# Altium schematic symbol library ESKD.SchLib: 165 symbols
Pins are listed as number, name and electrical type; pins without a type are passive.

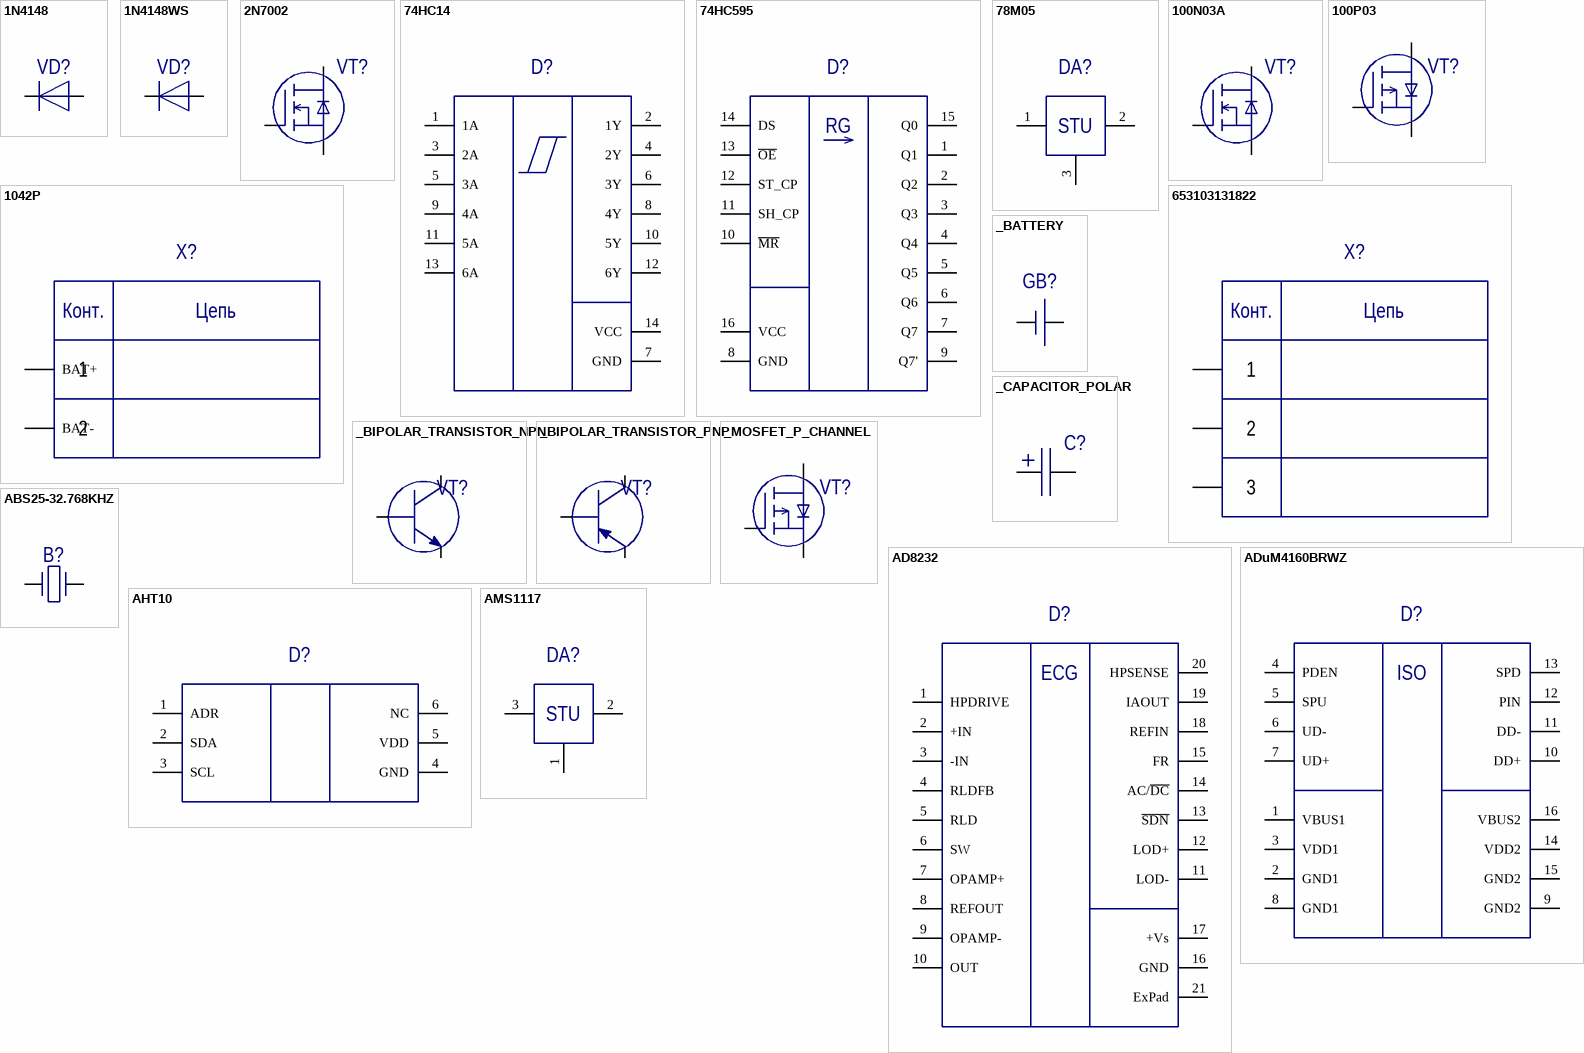
[diagram p0: symbols 1N4148 to AMS1117]

## 1N4148
designator VD?  (value not drawn)
Package: *
footprint SOD80 (MiniMELF)
pins: 1, 2

## 1N4148WS
designator VD?  (value not drawn)
footprint SOD323F MD (SODFL, 2-Leads, Body 1,25x2,50mm, IPC Medium Density)
footprint SOD323F LD (SODFL, 2-Leads, Body 1,25x2,50mm, IPC Low Density)
pins: 1, 2

## 2N7002
designator VT?  (value not drawn)
footprint SOT23-3 (TO-236) HD (SOT23, 3-Leads, Body 2,90x2,37mm, Pitch 0,95mm, IPC High Density)
footprint SOT23-3 (TO-236) LD (SOT23, 3-Leads, Body 2,90x2,37mm, Pitch 0,95mm, IPC Low Density)
footprint SOT23-3 (TO-236) MD (SOT23, 3-Leads, Body 2,90x2,37mm, Pitch 0,95mm, IPC Medium Density)
pins: 1 G, 2 S, 3 D

## 74HC14
designator D?  (value not drawn)
footprint SOIC14_150MIL HD JEDEC (SOIC, 14-Leads, Body 8,65x3,90mm, Pitch 1,27mm, IPC High Density)
footprint SOIC14_150MIL LD JEDEC (SOIC, 14-Leads, Body 8,65x3,90mm, Pitch 1,27mm, IPC Low Density)
footprint SOIC14_150MIL MD JEDEC (SOIC, 14-Leads, Body 8,65x3,90mm, Pitch 1,27mm, IPC Medium Density)
pins: 1 1A, 2 1Y, 3 2A, 4 2Y, 5 3A, 6 3Y, 7 GND, 8 4Y, 9 4A, 10 5Y, 11 5A, 12 6Y, 13 6A, 14 VCC

## 74HC595
designator D?  (value not drawn)
footprint SOIC16_150MIL HD JEDEC (SOIC, 16-Leads, Body 9,90x3,90mm, Pitch 1,27mm, IPC High Density)
footprint SOIC16_150MIL LD JEDEC (SOIC, 16-Leads, Body 9,90x3,90mm, Pitch 1,27mm, IPC Low Density)
footprint SOIC16_150MIL MD JEDEC (SOIC, 16-Leads, Body 9,90x3,90mm, Pitch 1,27mm, IPC Medium Density)
pins: 1 Q1, 2 Q2, 3 Q3, 4 Q4, 5 Q5, 6 Q6, 7 Q7, 8 GND, 9 Q7', 10 ~{MR}, 11 SH_CP, 12 ST_CP, 13 ~{OE}, 14 DS, 15 Q0, 16 VCC
text: RG

## 78M05
designator DA?  (value not drawn)
footprint DPAK (TO-252-3) HD (D-PAK, 3-Pads, Body 6,20x6,71mm (max), IPC High Density)
footprint DPAK (TO-252-3) LD (D-PAK, 3-Pads, Body 6,20x6,71mm (max), IPC Low Density)
footprint DPAK (TO-252-3) MD (D-PAK, 3-Pads, Body 6,20x6,71mm (max), IPC Medium Density)
pins: 1 (power), 2 (power), 3 (power)
text: STU

## 100N03A
designator VT?  (value not drawn)
footprint DPAK (TO-252-3) HD (D-PAK, 3-Pads, Body 6,20x6,71mm (max), IPC High Density)
footprint DPAK (TO-252-3) LD (D-PAK, 3-Pads, Body 6,20x6,71mm (max), IPC Low Density)
footprint DPAK (TO-252-3) MD (D-PAK, 3-Pads, Body 6,20x6,71mm (max), IPC Medium Density)
pins: 1 G, 2 S, 3 D

## 100P03
designator VT?  (value not drawn)
footprint PDFN5x6-8L
pins: 1 S, 2 S, 3 S, 4 G, 5 D

## 1042P
designator X?  (value not drawn)
18650 SOCKET
footprint 1042P
pins: 1 BAT+ (power), 2 BAT- (power)
text: Конт.; Цепь

## 653103131822
designator X?  (value not drawn)
Manufacturer: Wurth Electronics; Manufacturer Part Number: 653103131822; Connector Type: Male Pin; Current Rating: 1A; Gender: Male; Insulation Resistance: 100MR; Number of Contacts: 3; Pitch: 1.25mm; Voltage Rating: 125V; Category: Headers and Wire Housings; Color: Beige,White; Contact Gender: Male; Contact Material: Copper Alloy,Copper; Contact Mating Length: 0.084inch; Contact Plating: Tin; Contact Type: Male Pin; Flammability Rating: UL94 V-0; Height: 5.4mm; Housing Material: Nylon; Length: 3.4mm; Max Operating Temperature: 85°C; Min Operating Temperature: -25°C; Mount: Surface Mount; Number of Positions: 3; Number of Rows: 1; Package Quantity: 1; Packaging: Tape and Reel; REACH SVHC: Unknown; RoHS Compliant: Yes; Series: WR-WTB; Termination: SMD/SMT; Width: 8.5mm
footprint 653103131822
pins: 1, 2, 3
text: Конт.; Цепь

## _BATTERY
designator GB?  (value not drawn)
pins: 1, 2

## _BIPOLAR_TRANSISTOR_NPN
designator VT?  (value not drawn)
pins: 1 B (power), 2 E (power), 3 C (power)

## _BIPOLAR_TRANSISTOR_PNP
designator VT?  (value not drawn)
pins: 1 B (power), 2 E (power), 3 C (power)

## _CAPACITOR_POLAR
designator C?  (value not drawn)
pins: 1, 2

## _MOSFET_P_CHANNEL
designator VT?  (value not drawn)
pins: 1 G, 2 S, 3 D

## ABS25-32.768KHZ
designator B?  (value not drawn)
SMD Quartz Crystal
footprint FP-ABS25-MFG
pins: 1, 4

## AD8232
designator D?  (value not drawn)
footprint QFN20 LD (QFN, 20-Leads, Body 4,00x4,00mm, Pitch 0,50mm, Thermal Pad 2,55x2,55mm, IPC Low Density)
pins: 1 HPDRIVE, 2 +IN, 3 -IN, 4 RLDFB, 5 RLD, 6 SW, 7 OPAMP+, 8 REFOUT, 9 OPAMP-, 10 OUT, 11 LOD-, 12 LOD+, 13 ~{SDN}, 14 AC/~{DC}, 15 FR, 16 GND, 17 +Vs, 18 REFIN, 19 IAOUT, 20 HPSENSE, 21 ExPad
text: ECG

## ADuM4160BRWZ
designator D?  (value not drawn)
Manufacturer: Analog Devices; Manufacturer Part Number: ADUM4160BRWZ; Channel Type: Bidirectional; Data Rate: 12Mbps; Isolated Power: No; Isolation Voltage: 5kV; Max Input Current: 1uA; Max Supply Voltage: 5.5V; Min Supply Voltage: 3.1V; Nominal Supply Current: 6mA; Number of Channels: 2; Propagation Delay: 70ns; Rise Time: 20ns; Case/Package: SOIC; Category: Interface ICs; Contact Plating: Tin,Matte; Depth: 2.35mm; Lead Free: Contains Lead; Length: 10.5mm; Max Operating Temperature: 105°C; Min Operating Temperature: -40°C; Number of Pins: 16; Package Quantity: 47; Packaging: Rail/Tube; Radiation Hardening: No; REACH SVHC: No SVHC; RoHS Compliant: Yes; Series: iCoupler®; Supply Current: 6mA; Width: 7.6mm
footprint SOIC16_300MIL HD JEDEC (SOIC, 16-Leads, Body 10,30x7,50mm, Pitch 1,27mm, IPC High Density)
footprint SOIC16_300MIL LD JEDEC (SOIC, 16-Leads, Body 10,30x7,50mm, Pitch 1,27mm, IPC Low Density)
footprint SOIC16_300MIL MD JEDEC (SOIC, 16-Leads, Body 10,30x7,50mm, Pitch 1,27mm, IPC Medium Density)
pins: 1 VBUS1, 2 GND1, 3 VDD1, 4 PDEN, 5 SPU, 6 UD-, 7 UD+, 8 GND1, 9 GND2, 10 DD+, 11 DD-, 12 PIN, 13 SPD, 14 VDD2, 15 GND2, 16 VBUS2
text: ISO

## AHT10
designator D?  (value not drawn)
pins: 1 ADR, 2 SDA, 3 SCL, 4 GND, 5 VDD, 6 NC

## AMS1117
designator DA?  (value not drawn)
footprint SOT223 HD (SOT223, 4-Leads, Body 6,50x7,00mm (avg), Pitch 2,30mm, IPC High Density)
footprint SOT223 LD (SOT223, 4-Leads, Body 6,50x7,00mm (avg), Pitch 2,30mm, IPC Low Density)
footprint SOT223 MD (SOT223, 4-Leads, Body 6,50x7,00mm (avg), Pitch 2,30mm, IPC Medium Density)
pins: 1 (power), 2 (power), 3 (power), 4
text: STU

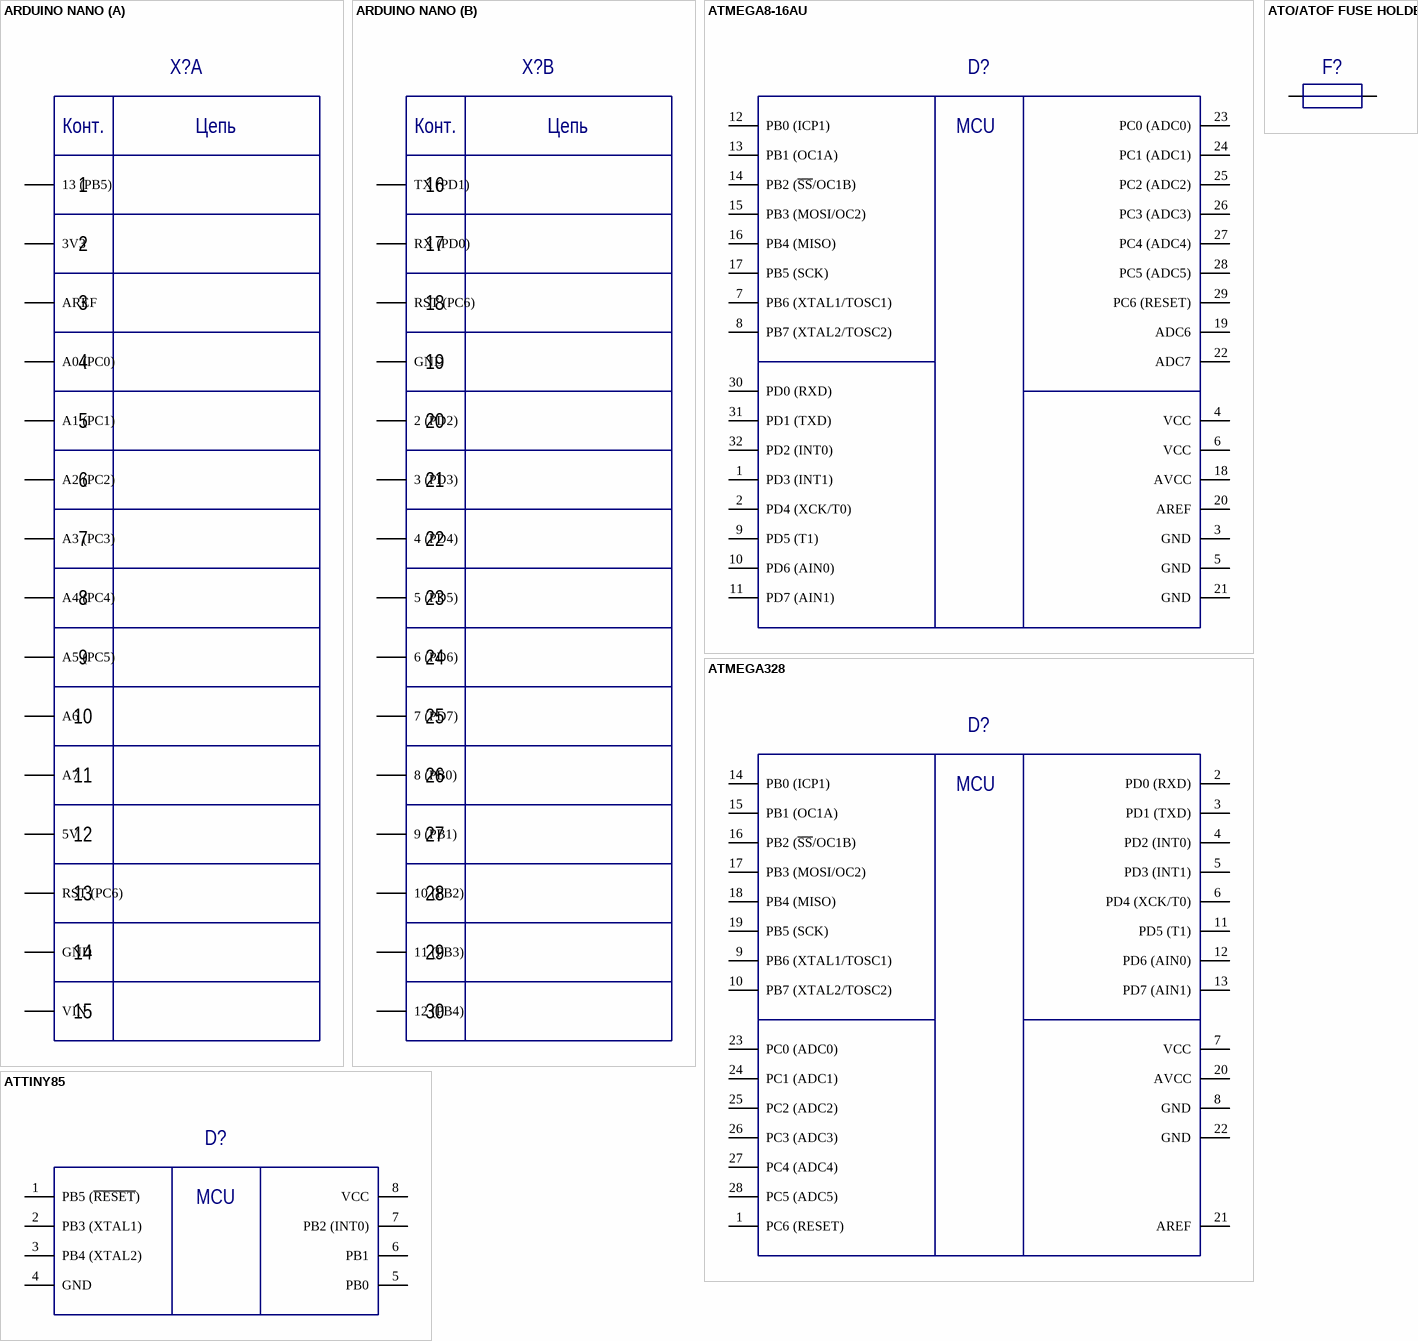
[diagram p1: symbols ARDUINO NANO to ATTINY85]

## ARDUINO NANO
designator X?  (value not drawn)
footprint Arduino Nano
part A pins: 1 13 (PB5), 2 3V3, 3 AREF, 4 A0 (PC0), 5 A1 (PC1), 6 A2 (PC2), 7 A3 (PC3), 8 A4 (PC4), 9 A5 (PC5), 10 A6, 11 A7, 12 5V, 13 RST (PC6), 14 GND, 15 VIN
part B pins: 16 TX (PD1), 17 RX (PD0), 18 RST (PC6), 19 GND, 20 2 (PD2), 21 3 (PD3), 22 4 (PD4), 23 5 (PD5), 24 6 (PD6), 25 7 (PD7), 26 8 (PB0), 27 9 (PB1), 28 10 (PB2), 29 11 (PB3), 30 12 (PB4)
part A text: Конт.; Цепь
part B text: Конт.; Цепь

## ATMEGA8-16AU
designator D?  (value not drawn)
Manufacturer: Microchip / Atmel; Manufacturer Part Number: ATMEGA8-16AU; Access Time: 16us; Address Bus Width: 8b; Core Architecture: AVR; Frequency: 16MHz; Interface: SPI,USART,I2C,UART,2-Wire; Max Supply Voltage: 5.5V; Memory Size: 8KB; Memory Type: FLASH,EEPROM; Min Supply Voltage: 4.5V; Number of ADC Channels: 8; Number of I/Os: 23; Number of I2C Channels: 1; Number of PWM Channels: 3; Operating Supply Voltage: 5V; Oscillator Type: Internal; Peripherals: Brown-out Detect/Reset,POR,PWM,WDT; RAM Size: 1KB; Watchdog Timer: Yes; Case/Package: A; Category: Microcontrollers; Contact Plating: Tin,Matte; Data Bus Width: 8b; Height: 1.05mm; Lead Free: Lead Free; Length: 7.1mm; Max Frequency: 16MHz; Max Operating Temperature: 85°C; Min Operating Temperature: -40°C; Mount: Surface Mount; Number of Bits: 8; Number of Pins: 32; Number of Programmable I/O: 23; Number of SPI Channels: 1; Number of Timers/Counters: 3; Package Quantity: 250; Packaging: Tray; Radiation Hardening: No; REACH SVHC: No SVHC; Series: AVR® ATmega; Width: 7.1mm
footprint TQFP32 MD (TQFP, 32-Leads, Body 7,00x7,00mm, Pitch 0,80mm, IPC Medium Density)
footprint TQFP32 LD (TQFP, 32-Leads, Body 7,00x7,00mm, Pitch 0,80mm, IPC Low Density)
footprint TQFP32 LD SPECIAL (TQFP, 32-Leads, Body 7,00x7,00mm, Pitch 0,80mm, IPC Low Density)
pins: 1 PD3 (INT1), 2 PD4 (XCK/T0), 3 GND (power), 4 VCC (power), 5 GND (power), 6 VCC (power), 7 PB6 (XTAL1/TOSC1), 8 PB7 (XTAL2/TOSC2), 9 PD5 (T1), 10 PD6 (AIN0), 11 PD7 (AIN1), 12 PB0 (ICP1), 13 PB1 (OC1A), 14 PB2 (~{SS}/OC1B), 15 PB3 (MOSI/OC2), 16 PB4 (MISO), 17 PB5 (SCK), 18 AVCC (power), 19 ADC6, 20 AREF (power), 21 GND (power), 22 ADC7, 23 PC0 (ADC0), 24 PC1 (ADC1), 25 PC2 (ADC2), 26 PC3 (ADC3), 27 PC4 (ADC4), 28 PC5 (ADC5), 29 PC6 (RESET), 30 PD0 (RXD), 31 PD1 (TXD), 32 PD2 (INT0)
text: MCU

## ATMEGA328
designator D?  (value not drawn)
footprint DIP28
pins: 1 PC6 (RESET), 2 PD0 (RXD), 3 PD1 (TXD), 4 PD2 (INT0), 5 PD3 (INT1), 6 PD4 (XCK/T0), 7 VCC (power), 8 GND (power), 9 PB6 (XTAL1/TOSC1), 10 PB7 (XTAL2/TOSC2), 11 PD5 (T1), 12 PD6 (AIN0), 13 PD7 (AIN1), 14 PB0 (ICP1), 15 PB1 (OC1A), 16 PB2 (~{SS}/OC1B), 17 PB3 (MOSI/OC2), 18 PB4 (MISO), 19 PB5 (SCK), 20 AVCC (power), 21 AREF (power), 22 GND (power), 23 PC0 (ADC0), 24 PC1 (ADC1), 25 PC2 (ADC2), 26 PC3 (ADC3), 27 PC4 (ADC4), 28 PC5 (ADC5)
text: MCU

## ATO/ATOF FUSE HOLDER
designator F?  (value not drawn)
footprint XF-507P (ATO Blade Fuse Holder)
pins: 1, 2

## ATTINY85
designator D?  (value not drawn)
Manufacturer: Microchip / Atmel; Manufacturer Part Number: ATMEGA8-16AU; Access Time: 16us; Address Bus Width: 8b; Core Architecture: AVR; Frequency: 16MHz; Interface: SPI,USART,I2C,UART,2-Wire; Max Supply Voltage: 5.5V; Memory Size: 8KB; Memory Type: FLASH,EEPROM; Min Supply Voltage: 4.5V; Number of ADC Channels: 8; Number of I/Os: 23; Number of I2C Channels: 1; Number of PWM Channels: 3; Operating Supply Voltage: 5V; Oscillator Type: Internal; Peripherals: Brown-out Detect/Reset,POR,PWM,WDT; RAM Size: 1KB; Watchdog Timer: Yes; Case/Package: A; Category: Microcontrollers; Contact Plating: Tin,Matte; Data Bus Width: 8b; Height: 1.05mm; Lead Free: Lead Free; Length: 7.1mm; Max Frequency: 16MHz; Max Operating Temperature: 85°C; Min Operating Temperature: -40°C; Mount: Surface Mount; Number of Bits: 8; Number of Pins: 32; Number of Programmable I/O: 23; Number of SPI Channels: 1; Number of Timers/Counters: 3; Package Quantity: 250; Packaging: Tray; Radiation Hardening: No; REACH SVHC: No SVHC; Series: AVR® ATmega; Width: 7.1mm
pins: 1 PB5 (~{RESET}), 2 PB3 (XTAL1), 3 PB4 (XTAL2), 4 GND, 5 PB0, 6 PB1, 7 PB2 (INT0), 8 VCC
text: MCU

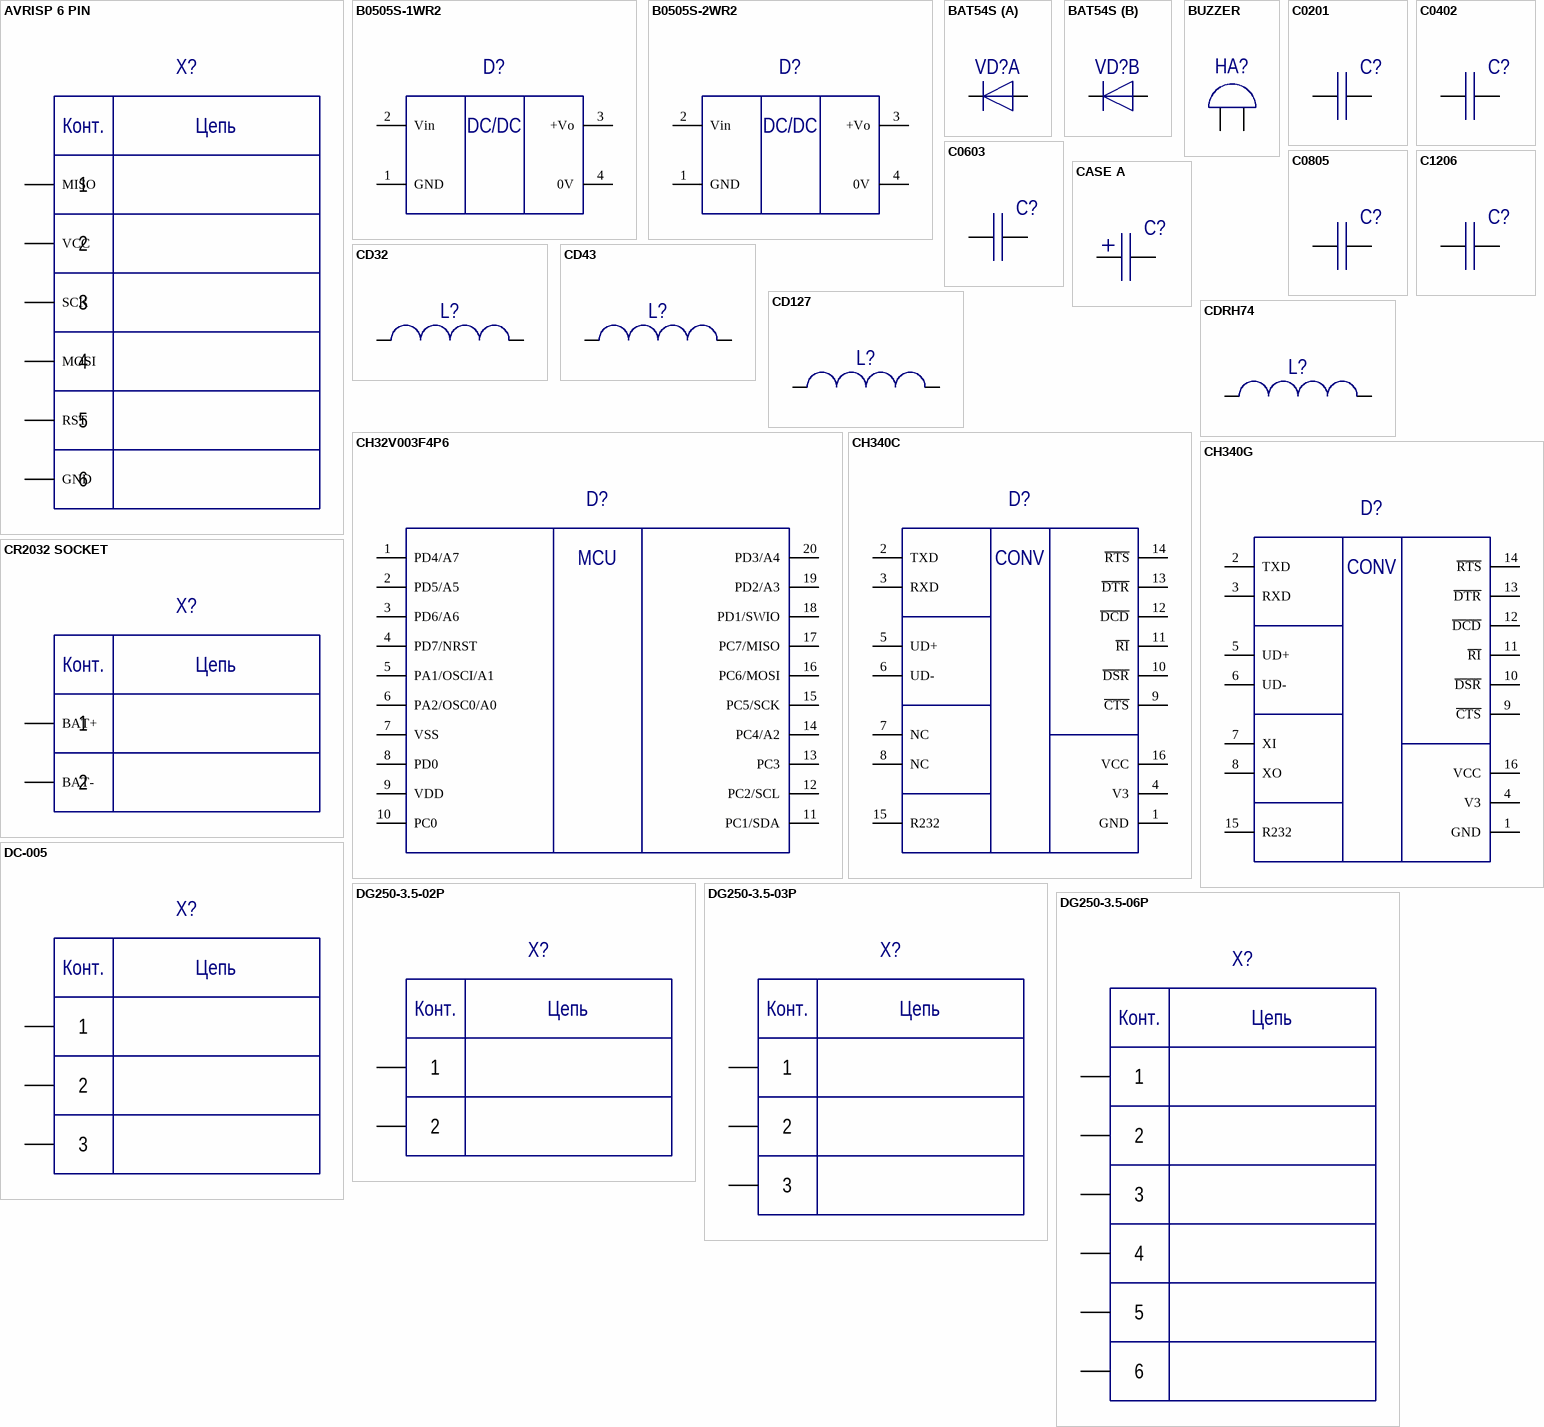
[diagram p2: symbols AVRISP 6 PIN to DG250-3.5-06P]

## AVRISP 6 PIN
designator X?  (value not drawn)
footprint AVRISP
pins: 1 MISO, 2 VCC, 3 SCK, 4 MOSI, 5 RST, 6 GND
text: Конт.; Цепь

## B0505S-1WR2
designator D?  (value not drawn)
Manufacturer Part Number: B0505S-1WR2; Manufacturer: MORNSUN; Category: Voltage Regulators - Switching; RoHS Compliant: Yes
footprint B_S-1WR2_FLAT
footprint B_S-1WR2
pins: 1 GND (power), 2 Vin (power), 3 +Vo (power), 4 0V (power)
text: DC/DC

## B0505S-2WR2
designator D?  (value not drawn)
Manufacturer Part Number: B0505S-1WR2; Manufacturer: MORNSUN; Category: Voltage Regulators - Switching; RoHS Compliant: Yes
pins: 1 GND (power), 2 Vin (power), 3 +Vo (power), 4 0V (power)
text: DC/DC

## BAT54S
designator VD?  (value not drawn)
footprint SOT23-3 (TO-236) LD (SOT23, 3-Leads, Body 2,90x2,37mm, Pitch 0,95mm, IPC Low Density)
part A pins: 1, 3
part B pins: 2, 3

## BUZZER
designator HA?  (value not drawn)
footprint BUZZER
pins: 1, 2

## C0201
designator C?  (value not drawn)
footprint C0201 EASY (Chip Capacitor C0201, 2-Leads, Body 0,6x0,3mm, IPC Medium Density)
pins: 1, 2

## C0402
designator C?  (value not drawn)
footprint C0402 EASY (Chip Capacitor 0402, 2-Leads, Body 1,0x0,5mm, IPC Medium Density)
pins: 1, 2

## C0603
designator C?  (value not drawn)
footprint C0603 EASY (Chip Capacitor 0603, 2-Leads, Body 1,6x0,8mm, IPC Medium Density)
footprint C0603 HD (Chip Capacitor, 2-Leads, Body 1.75x0.96mm, IPC High Density)
footprint C0603 LD (Chip Capacitor, 2-Leads, Body 1.75x0.96mm, IPC Low Density)
footprint C0603 MD (Chip Capacitor, 2-Leads, Body 1.75x0.96mm, IPC Medium Density)
pins: 1, 2

## C0805
designator C?  (value not drawn)
footprint C0805 EASY (Chip Capacitor 0805, 2-Leads, Body 2,0x1,3mm, IPC Medium Density)
pins: 1, 2

## C1206
designator C?  (value not drawn)
footprint C1206 EASY (Chip Capacitor 1206, 2-Leads, Body 3,2x1,6mm, IPC Medium Density)
pins: 1, 2

## CASE A
designator C?  (value not drawn)
footprint CASE A
pins: 1, 2

## CD32
designator L?  (value not drawn)
footprint CD32
pins: 1, 2

## CD43
designator L?  (value not drawn)
footprint CD43
pins: 1, 2

## CD127
designator L?  (value not drawn)
footprint CD127
pins: 1, 2

## CDRH74
designator L?  (value not drawn)
footprint CDRH74
pins: 1, 2

## CH32V003F4P6
designator D?  (value not drawn)
footprint TSSOP20 LD (TSOP, 20-Leads, Body 6,50x4,40mm, Pitch 0,65mm, IPC Low Density)
pins: 1 PD4/A7, 2 PD5/A5, 3 PD6/A6, 4 PD7/NRST, 5 PA1/OSCI/A1, 6 PA2/OSC0/A0, 7 VSS, 8 PD0, 9 VDD, 10 PC0, 11 PC1/SDA, 12 PC2/SCL, 13 PC3, 14 PC4/A2, 15 PC5/SCK, 16 PC6/MOSI, 17 PC7/MISO, 18 PD1/SWIO, 19 PD2/A3, 20 PD3/A4
text: MCU

## CH340C
designator D?  (value not drawn)
footprint SOIC16_150MIL HD JEDEC (SOIC, 16-Leads, Body 9,90x3,90mm, Pitch 1,27mm, IPC High Density)
footprint SOIC16_150MIL LD JEDEC (SOIC, 16-Leads, Body 9,90x3,90mm, Pitch 1,27mm, IPC Low Density)
footprint SOIC16_150MIL MD JEDEC (SOIC, 16-Leads, Body 9,90x3,90mm, Pitch 1,27mm, IPC Medium Density)
pins: 1 GND, 2 TXD, 3 RXD, 4 V3, 5 UD+, 6 UD-, 7 NC, 8 NC, 9 ~{CTS}, 10 ~{DSR}, 11 ~{RI}, 12 ~{DCD}, 13 ~{DTR}, 14 ~{RTS}, 15 R232, 16 VCC
text: CONV

## CH340G
designator D?  (value not drawn)
footprint SOIC16_150MIL HD JEDEC (SOIC, 16-Leads, Body 9,90x3,90mm, Pitch 1,27mm, IPC High Density)
footprint SOIC16_150MIL LD JEDEC (SOIC, 16-Leads, Body 9,90x3,90mm, Pitch 1,27mm, IPC Low Density)
footprint SOIC16_150MIL MD JEDEC (SOIC, 16-Leads, Body 9,90x3,90mm, Pitch 1,27mm, IPC Medium Density)
pins: 1 GND, 2 TXD, 3 RXD, 4 V3, 5 UD+, 6 UD-, 7 XI, 8 XO, 9 ~{CTS}, 10 ~{DSR}, 11 ~{RI}, 12 ~{DCD}, 13 ~{DTR}, 14 ~{RTS}, 15 R232, 16 VCC
text: CONV

## CR2032 SOCKET
designator X?  (value not drawn)
footprint CR2032 (KLS5-CR2032-01 (BH-642) (CH224-2032))
pins: 1 BAT+ (power), 2 BAT- (power)
text: Конт.; Цепь

## DC-005
designator X?  (value not drawn)
footprint DC-005 (DC SOCKET W14.00xD9.00xH11.00)
pins: 1, 2, 3
text: Конт.; Цепь

## DG250-3.5-02P
designator X?
PCB spring terminal blocks,Rated current:10A.Rated voltage （III/2）:320V,pitch:3.5mm,Color:gray,Contact surface :Tin
footprint DG250-3.5-02P (PCB spring terminal blocks,Rated current:10A.Rated voltage (III/2):320V,pitch:3.5mm,Color:gray,Contact surface :Tin)
pins: 1 (power), 2 (power)
text: Конт.; Цепь

## DG250-3.5-03P
designator X?  (value not drawn)
PCB spring terminal blocks,Rated current:10A.Rated voltage （III/2）:320V,pitch:3.5mm,Color:gray,Contact surface :Tin
footprint DG250-3.5-03P (PCB spring terminal blocks,Rated current:10A.Rated voltage (III/2):320V,pitch:3.5mm,Color:gray,Contact surface :Tin)
pins: 1, 2, 3
text: Конт.; Цепь

## DG250-3.5-06P
designator X?  (value not drawn)
PCB spring terminal blocks,Rated current:10A.Rated voltage （III/2）:320V,pitch:3.5mm,Color:gray,Contact surface :Tin
footprint DG250-3.5-06P (PCB spring terminal blocks,Rated current:10A.Rated voltage (III/2):320V,pitch:3.5mm,Color:gray,Contact surface :Tin)
pins: 1, 2, 3, 4, 5, 6
text: Конт.; Цепь

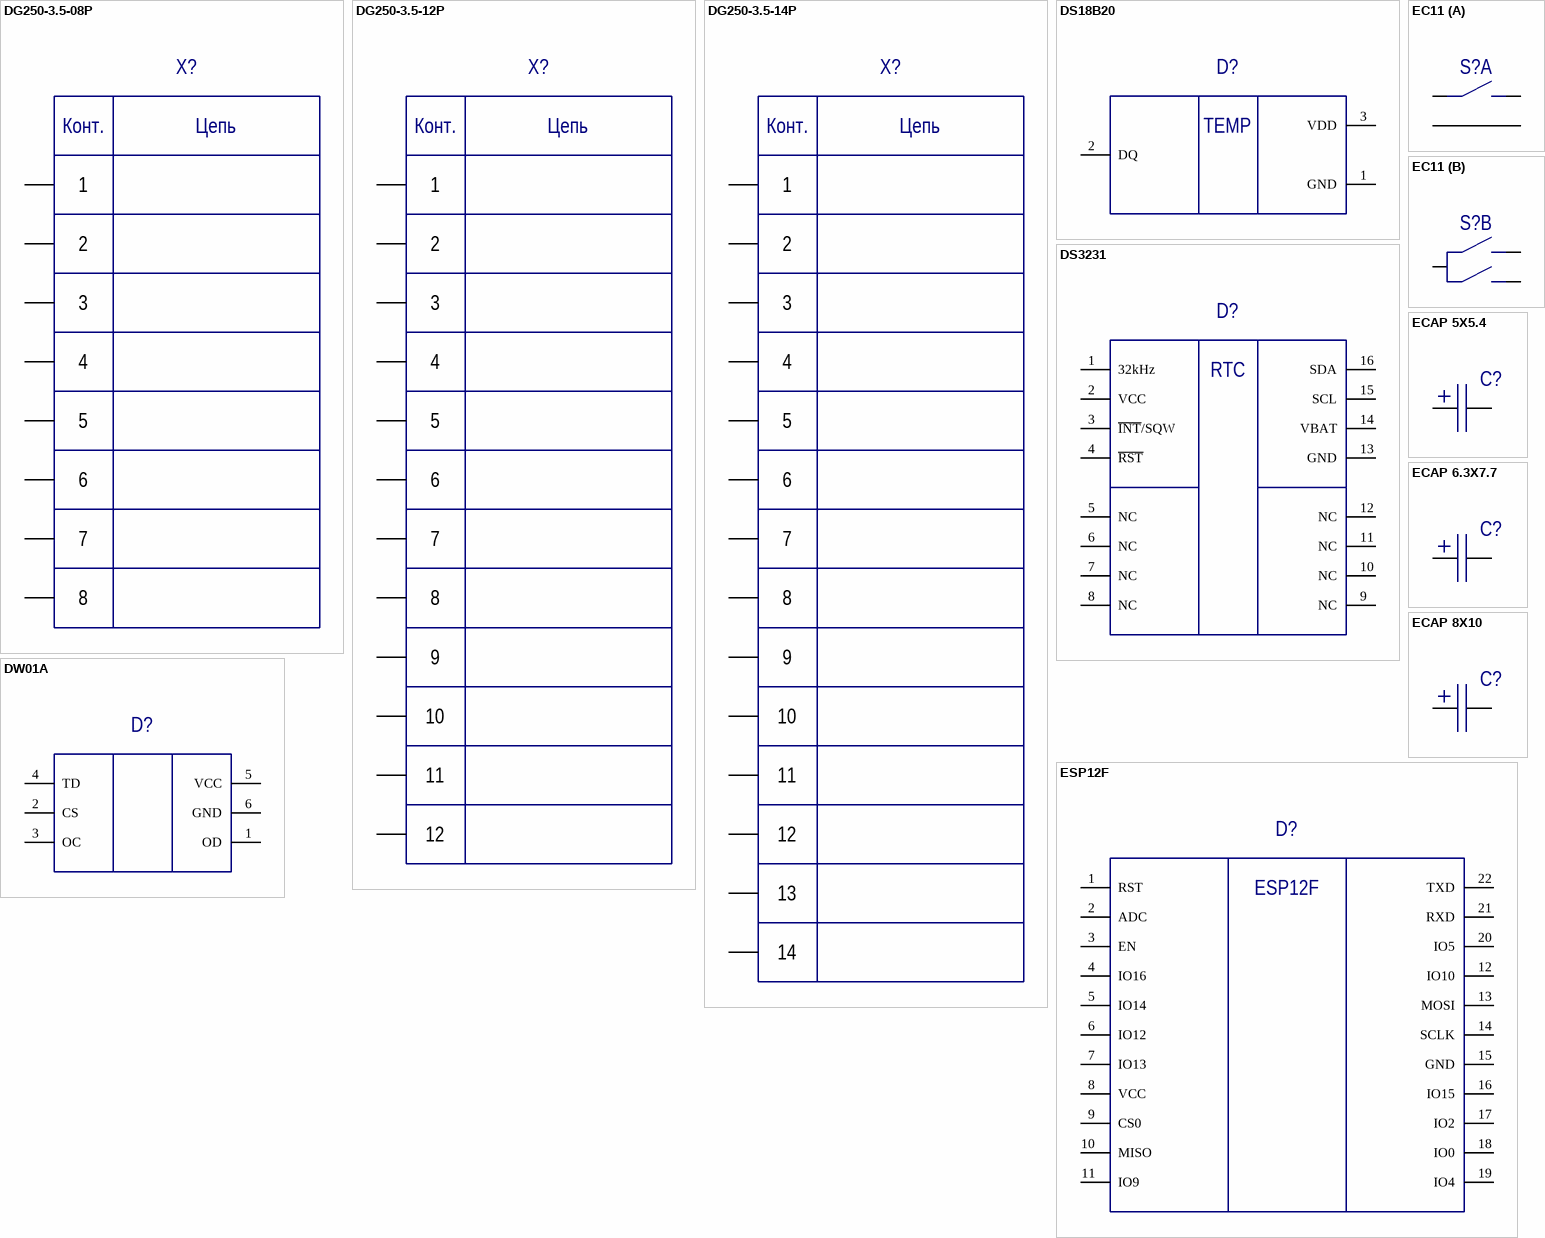
[diagram p3: symbols DG250-3.5-08P to ESP12F]

## DG250-3.5-08P
designator X?  (value not drawn)
PCB spring terminal blocks,Rated current:10A.Rated voltage （III/2）:320V,pitch:3.5mm,Color:gray,Contact surface :Tin
footprint DG250-3.5-08P (Footprint not found)
pins: 1, 2, 3, 4, 5, 6, 7, 8
text: Конт.; Цепь

## DG250-3.5-12P
designator X?  (value not drawn)
PCB spring terminal blocks,Rated current:10A.Rated voltage （III/2）:320V,pitch:3.5mm,Color:gray,Contact surface :Tin
footprint DG250-3.5-12P (PCB spring terminal blocks,Rated current:10A.Rated voltage (III/2):320V,pitch:3.5mm,Color:gray,Contact surface :Tin)
pins: 1, 2, 3, 4, 5, 6, 7, 8, 9, 10, 11, 12
text: Конт.; Цепь

## DG250-3.5-14P
designator X?  (value not drawn)
PCB spring terminal blocks,Rated current:10A.Rated voltage （III/2）:320V,pitch:3.5mm,Color:gray,Contact surface :Tin
footprint DG250-3.5-14P (PCB spring terminal blocks,Rated current:10A.Rated voltage (III/2):320V,pitch:3.5mm,Color:gray,Contact surface :Tin)
pins: 1, 2, 3, 4, 5, 6, 7, 8, 9, 10, 11, 12, 13, 14
text: Конт.; Цепь

## DS18B20
designator D?  (value not drawn)
footprint TO92
pins: 1 GND (power), 2 DQ (power), 3 VDD (power)
text: TEMP

## DS3231
designator D?  (value not drawn)
Extremely Accurate I2C-Integrated / RTC/TCXO/Crystal
footprint SOIC16_300MIL HD JEDEC (SOIC, 16-Leads, Body 10,30x7,50mm, Pitch 1,27mm, IPC High Density)
footprint SOIC16_300MIL LD JEDEC (SOIC, 16-Leads, Body 10,30x7,50mm, Pitch 1,27mm, IPC Low Density)
footprint SOIC16_300MIL MD JEDEC (SOIC, 16-Leads, Body 10,30x7,50mm, Pitch 1,27mm, IPC Medium Density)
pins: 1 32kHz, 2 VCC, 3 ~{INT}/SQW, 4 ~{RST}, 5 NC, 6 NC, 7 NC, 8 NC, 9 NC, 10 NC, 11 NC, 12 NC, 13 GND, 14 VBAT, 15 SCL, 16 SDA
text: RTC

## DW01A
designator D?  (value not drawn)
footprint SOT23-6 MD (SOT23, 6-Leads, Body 2,90x2,37mm, Pitch 0,95mm, IPC Medium Density)
pins: 1 OD, 2 CS, 3 OC, 4 TD, 5 VCC, 6 GND

## EC11
designator S?  (value not drawn)
footprint EC11
part A pins: D, E, MH1, MH2
part B pins: A, B, C

## ECAP 5X5.4
designator C?  (value not drawn)
footprint ECAP 5X5.4 (Aluminum Electrolytic Capacitor, Body 5,30x5,30x5,50mm, IPC Low Density)
pins: 1, 2

## ECAP 6.3X7.7
designator C?  (value not drawn)
footprint ECAP 6.3x7.7 (Aluminum Electrolytic Capacitor, Body 6,60x6,60x8,50mm, IPC Low Density)
pins: 1, 2

## ECAP 8X10
designator C?  (value not drawn)
footprint ECAP 8x10 (Aluminum Electrolytic Capacitor, Body 8,30x8,30x10,80mm, IPC Low Density)
pins: 1, 2

## ESP12F
designator D?  (value not drawn)
footprint ESP12F
pins: 1 RST, 2 ADC, 3 EN, 4 IO16, 5 IO14, 6 IO12, 7 IO13, 8 VCC, 9 CS0, 10 MISO, 11 IO9, 12 IO10, 13 MOSI, 14 SCLK, 15 GND, 16 IO15, 17 IO2, 18 IO0, 19 IO4, 20 IO5, 21 RXD, 22 TXD

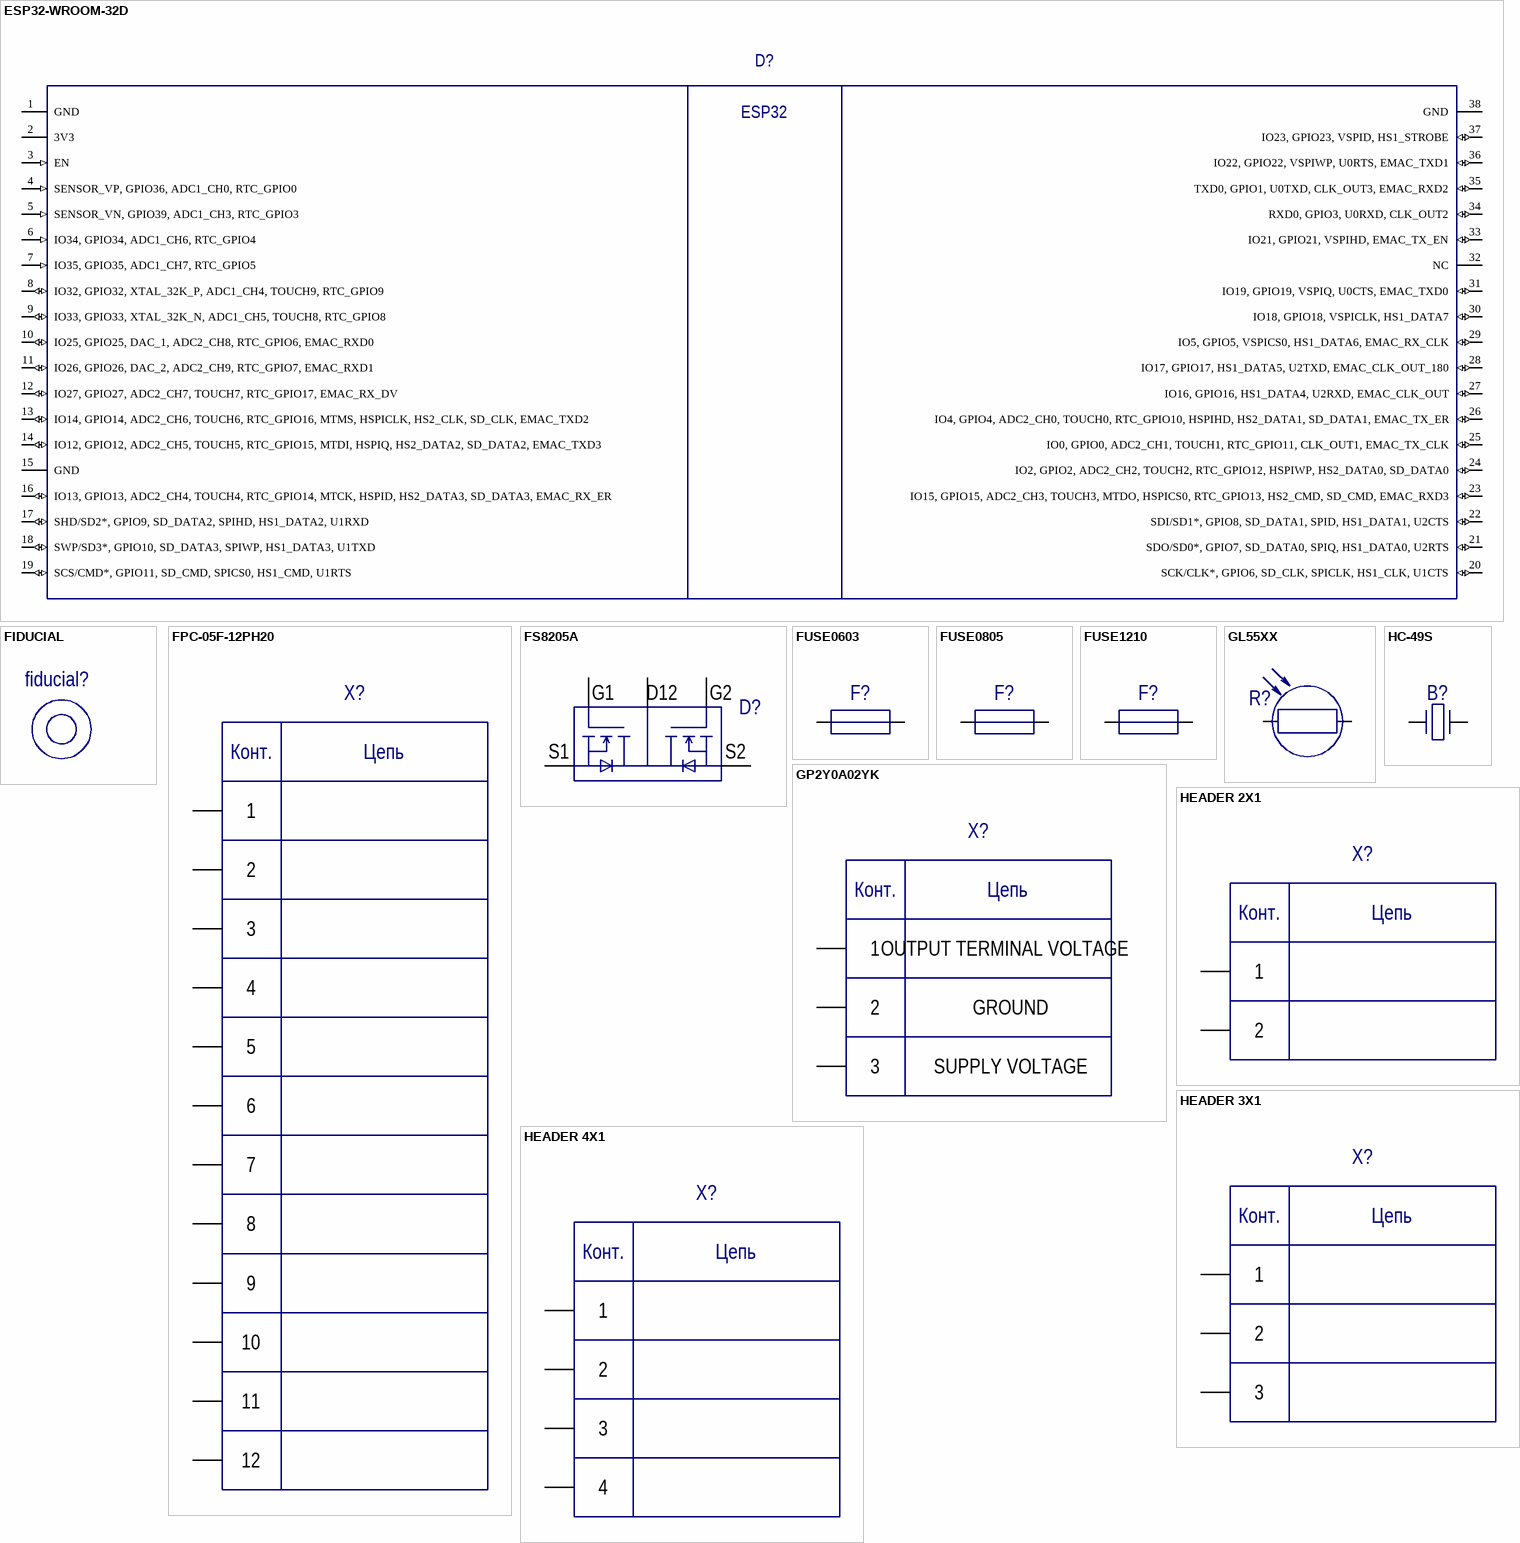
[diagram p4: symbols ESP32-WROOM-32D to HEADER 4X1]

## ESP32-WROOM-32D
designator D?  (value not drawn)
footprint ESP32-WROOM-32D (ESP32-WROOM-32D and ESP32-WROOM-32U are powerful, generic Wi-Fi + Bluetooth® + Bluetooth LE MCU  modules that target a wide variety of applications, ranging from low-power sensor networks to the most  demanding tasks, such as voice encoding, music streaming and MP3 decoding.)
pins: 1 GND (power), 2 3V3 (power), 3 EN (in), 4 SENSOR_VP, GPIO36, ADC1_CH0, RTC_GPIO0 (in), 5 SENSOR_VN, GPIO39, ADC1_CH3, RTC_GPIO3 (in), 6 IO34, GPIO34, ADC1_CH6, RTC_GPIO4 (in), 7 IO35, GPIO35, ADC1_CH7, RTC_GPIO5 (in), 8 IO32, GPIO32, XTAL_32K_P, ADC1_CH4, TOUCH9, RTC_GPIO9 (io), 9 IO33, GPIO33, XTAL_32K_N, ADC1_CH5, TOUCH8, RTC_GPIO8 (io), 10 IO25, GPIO25, DAC_1, ADC2_CH8, RTC_GPIO6, EMAC_RXD0 (io), 11 IO26, GPIO26, DAC_2, ADC2_CH9, RTC_GPIO7, EMAC_RXD1 (io), 12 IO27, GPIO27, ADC2_CH7, TOUCH7, RTC_GPIO17, EMAC_RX_DV (io), 13 IO14, GPIO14, ADC2_CH6, TOUCH6, RTC_GPIO16, MTMS, HSPICLK, HS2_CLK, SD_CLK, EMAC_TXD2 (io), 14 IO12, GPIO12, ADC2_CH5, TOUCH5, RTC_GPIO15, MTDI, HSPIQ, HS2_DATA2, SD_DATA2, EMAC_TXD3 (io), 15 GND (power), 16 IO13, GPIO13, ADC2_CH4, TOUCH4, RTC_GPIO14, MTCK, HSPID, HS2_DATA3, SD_DATA3, EMAC_RX_ER (io), 17 SHD/SD2*, GPIO9, SD_DATA2, SPIHD, HS1_DATA2, U1RXD (io), 18 SWP/SD3*, GPIO10, SD_DATA3, SPIWP, HS1_DATA3, U1TXD (io), 19 SCS/CMD*, GPIO11, SD_CMD, SPICS0, HS1_CMD, U1RTS (io), 20 SCK/CLK*, GPIO6, SD_CLK, SPICLK, HS1_CLK, U1CTS (io), 21 SDO/SD0*, GPIO7, SD_DATA0, SPIQ, HS1_DATA0, U2RTS (io), 22 SDI/SD1*, GPIO8, SD_DATA1, SPID, HS1_DATA1, U2CTS (io), 23 IO15, GPIO15, ADC2_CH3, TOUCH3, MTDO, HSPICS0, RTC_GPIO13, HS2_CMD, SD_CMD, EMAC_RXD3 (io), 24 IO2, GPIO2, ADC2_CH2, TOUCH2, RTC_GPIO12, HSPIWP, HS2_DATA0, SD_DATA0 (io), 25 IO0, GPIO0, ADC2_CH1, TOUCH1, RTC_GPIO11, CLK_OUT1, EMAC_TX_CLK (io), 26 IO4, GPIO4, ADC2_CH0, TOUCH0, RTC_GPIO10, HSPIHD, HS2_DATA1, SD_DATA1, EMAC_TX_ER (io), 27 IO16, GPIO16, HS1_DATA4, U2RXD, EMAC_CLK_OUT (io), 28 IO17, GPIO17, HS1_DATA5, U2TXD, EMAC_CLK_OUT_180 (io), 29 IO5, GPIO5, VSPICS0, HS1_DATA6, EMAC_RX_CLK (io), 30 IO18, GPIO18, VSPICLK, HS1_DATA7 (io), 31 IO19, GPIO19, VSPIQ, U0CTS, EMAC_TXD0 (io), 32 NC, 33 IO21, GPIO21, VSPIHD, EMAC_TX_EN (io), 34 RXD0, GPIO3, U0RXD, CLK_OUT2 (io), 35 TXD0, GPIO1, U0TXD, CLK_OUT3, EMAC_RXD2 (io), 36 IO22, GPIO22, VSPIWP, U0RTS, EMAC_TXD1 (io), 37 IO23, GPIO23, VSPID, HS1_STROBE (io), 38 GND (power)
text: ESP32

## FIDUCIAL
designator fiducial?  (value not drawn)
footprint FIDUCIAL

## FPC-05F-12PH20
designator X?  (value not drawn)
Clamshell -25℃~+85℃ 12P Bottom Contact Surface Mount，Right Angle 0.5mm SMD,P=0.5mm,Surface Mount，Right Angle FFC/FPC Connectors ROHS
footprint FPC-05F-12PH20 (XUNPU FPC-05F-12PH20)
pins: 1, 2, 3, 4, 5, 6, 7, 8, 9, 10, 11, 12
text: Конт.; Цепь

## FS8205A
designator D?  (value not drawn)
footprint TSSOP8 MD (TSOP, 8-Leads, Body 3,00x4,40mm, Pitch 0,65mm, IPC Medium Density)
pins: 1 D12, 2 S1, 3 S1, 4 G1, 5 G2, 6 S2, 7 S2, 8 D12

## FUSE0603
designator F?  (value not drawn)
footprint FUSE0603 EASY (Chip Capacitor 0603, 2-Leads, Body 1,6x0,8mm, IPC Medium Density)
pins: 1, 2

## FUSE0805
designator F?  (value not drawn)
footprint FUSE0805 EASY (Chip Resistor 0805, 2-Leads, Body 2,0x1,3mm, IPC Medium Density)
pins: 1, 2

## FUSE1210
designator F?  (value not drawn)
footprint FUSE1210 (Chip Resistor, 2-Leads, Body 3,20x2,50mm, IPC Medium Density)
pins: 1, 2

## GL55XX
designator R?  (value not drawn)
Photoresistor GL55XX series
footprint GL55XX_2 (Photoresistor 3mm pitch)
footprint GL55XX_1 (Photoresistor 3mm pitch)
pins: 1, 2

## GP2Y0A02YK
designator X?  (value not drawn)
footprint GP2Y0A02YK0F CROSS
pins: 1, 2, 3
text: Конт.; Цепь; OUTPUT TERMINAL VOLTAGE; GROUND; SUPPLY VOLTAGE

## HC-49S
designator B?  (value not drawn)
Quartz Crystal
footprint HC-49
pins: 1, 2

## HEADER 2X1
designator X?  (value not drawn)
footprint HEADER 2x1 (Pin Header, pitch 2.54 mm, THT, Vertical, single row, 2p)
footprint HEADER 2x1 FLAT (.025 SQ Post Terminal Strip Assembly, 1x2 Pins, Right Angle, 2.54mm Pitch, Male)
pins: 1, 2
text: Конт.; Цепь

## HEADER 3X1
designator X?  (value not drawn)
footprint HEADER 3X1
pins: 1, 2, 3
text: Конт.; Цепь

## HEADER 4X1
designator X?  (value not drawn)
footprint HEADER 4X1 FLAT
footprint HEADER 4x1 (Pin Header, pitch 2.54 mm, THT, Vertical, single row, 4p)
footprint 70553-0003 (MOLEX)
pins: 1, 2, 3, 4
text: Конт.; Цепь

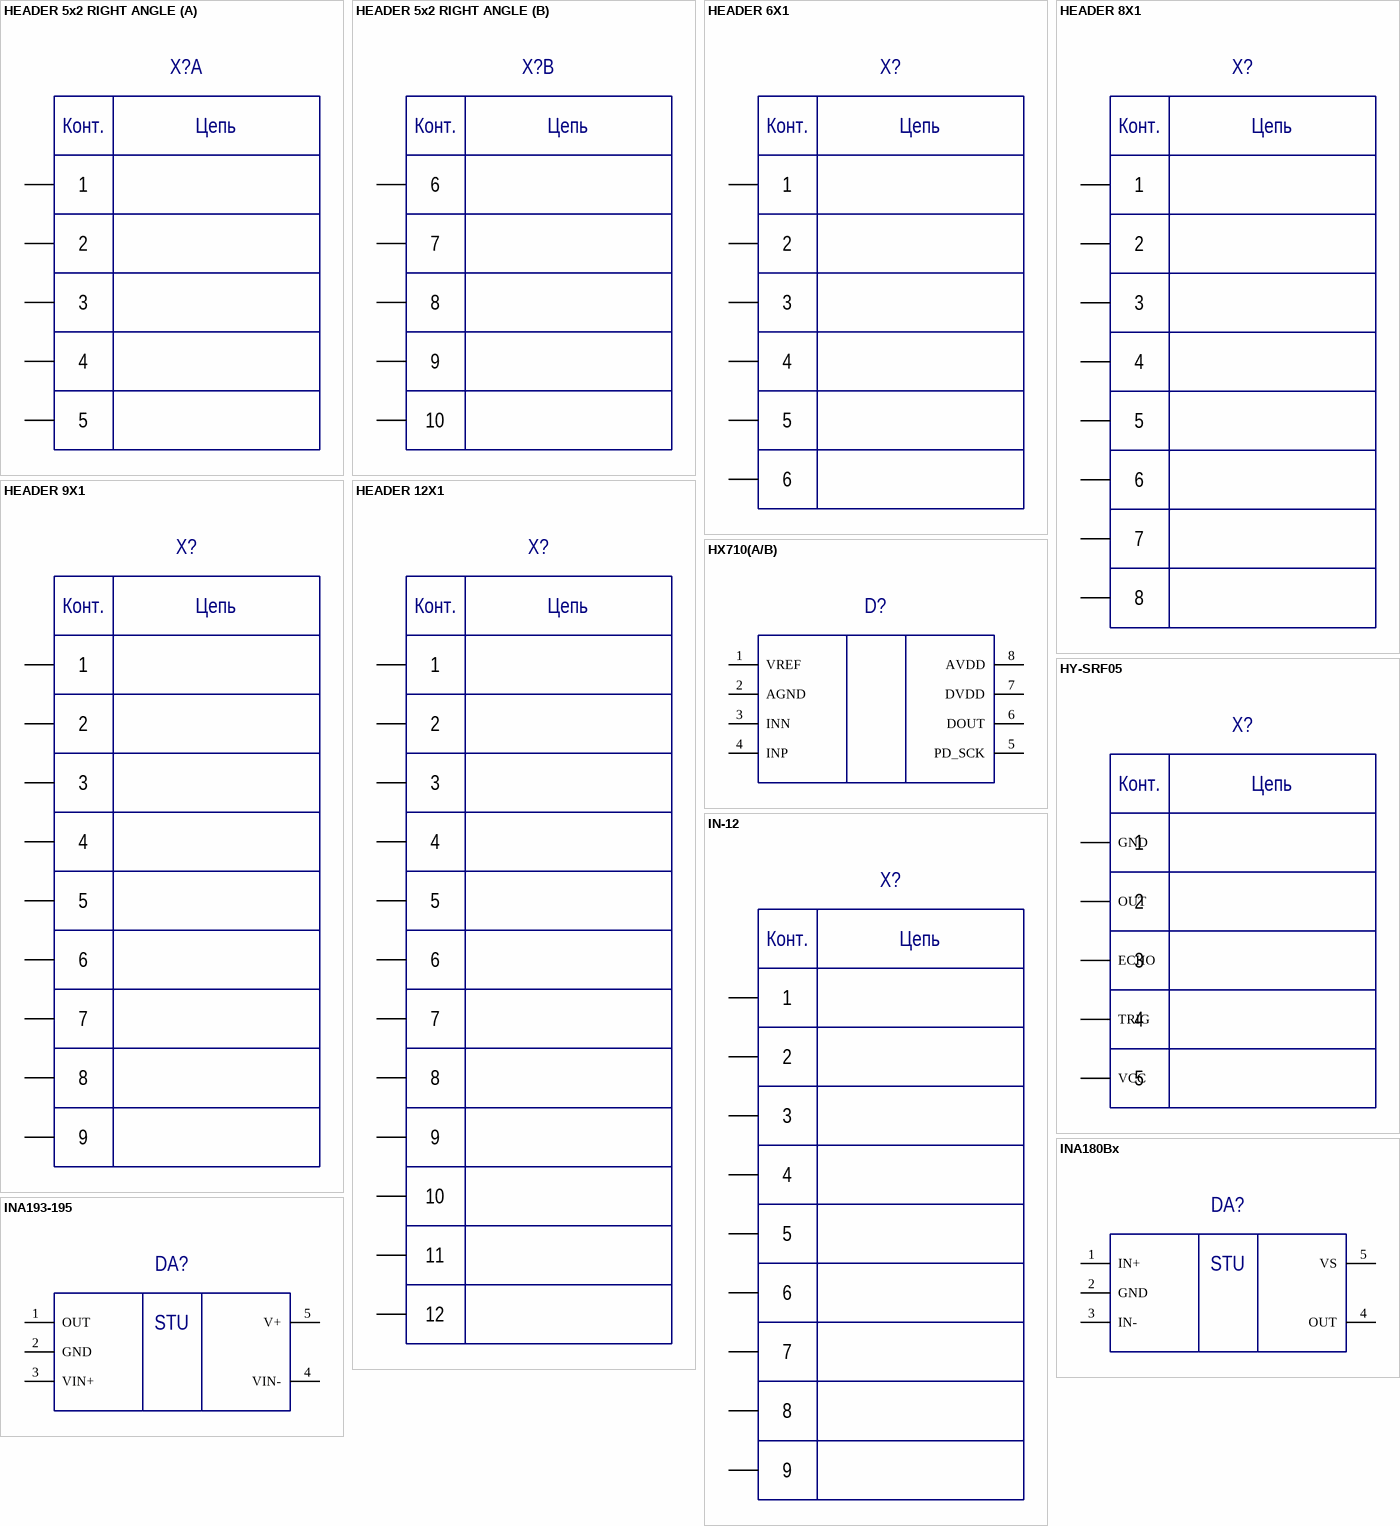
[diagram p5: symbols HEADER 5x2 RIGHT ANGLE to INA193-195]

## HEADER 5x2 RIGHT ANGLE
designator X?  (value not drawn)
footprint HEADER 5x2 RIGHT ANGLE (BH-10R, DS1013-10R, IDC-10MR)
part A pins: 1, 2, 3, 4, 5
part B pins: 6, 7, 8, 9, 10
part A text: Конт.; Цепь
part B text: Конт.; Цепь

## HEADER 6X1
designator X?  (value not drawn)
footprint HEADER 6X1 (Connector; Header; 6 Position)
pins: 1, 2, 3, 4, 5, 6
text: Конт.; Цепь

## HEADER 8X1
designator X?  (value not drawn)
footprint HEADER 8X1 (Connector; Header; 8 Position)
pins: 1, 2, 3, 4, 5, 6, 7, 8
text: Конт.; Цепь

## HEADER 9X1
designator X?  (value not drawn)
footprint HEADER 9X1 (Connector; Header; 9 Position)
pins: 1, 2, 3, 4, 5, 6, 7, 8, 9
text: Конт.; Цепь

## HEADER 12X1
designator X?  (value not drawn)
footprint HEADER 12X1 (Connector; Header; 6 Position)
pins: 1, 2, 3, 4, 5, 6, 7, 8, 9, 10, 11, 12
text: Конт.; Цепь

## HX710(A/B)
designator D?  (value not drawn)
footprint SOIC8_150MIL HD JEDEC (SOIC, 8-Leads, Body 4,90x3,90mm, Pitch 1,27mm, IPC High Density)
footprint SOIC8_150MIL LD JEDEC (SOIC, 8-Leads, Body 4,90x3,90mm, Pitch 1,27mm, IPC Low Density)
footprint SOIC8_150MIL MD JEDEC (SOIC, 8-Leads, Body 4,90x3,90mm, Pitch 1,27mm, IPC Medium Density)
pins: 1 VREF, 2 AGND, 3 INN, 4 INP, 5 PD_SCK, 6 DOUT, 7 DVDD, 8 AVDD

## HY-SRF05
designator X?  (value not drawn)
footprint HY-SRF05 (Connector; Header; 6 Position)
pins: 1 GND, 2 OUT, 3 ECHO, 4 TRIG, 5 VCC
text: Конт.; Цепь

## IN-12
designator X?  (value not drawn)
footprint IN-12
pins: 1, 2, 3, 4, 5, 6, 7, 8, 9
text: Конт.; Цепь

## INA180Bx
designator DA?  (value not drawn)
footprint SOT23-5 LD (SOT23, 5-Leads, Body 2,90x2,37mm, Pitch 0,95mm, IPC Low Density)
footprint SOT23-5 MD (SOT23, 5-Leads, Body 2,90x2,37mm, Pitch 0,95mm, IPC Medium Density)
footprint SOT23-5 HD (SOT23, 5-Leads, Body 2,90x2,37mm, Pitch 0,95mm, IPC High Density)
pins: 1 IN+ (power), 2 GND (power), 3 IN-, 4 OUT, 5 VS (power)
text: STU

## INA193-195
designator DA?  (value not drawn)
footprint SOT23-5 LD (SOT23, 5-Leads, Body 2,90x2,37mm, Pitch 0,95mm, IPC Low Density)
footprint SOT23-5 MD (SOT23, 5-Leads, Body 2,90x2,37mm, Pitch 0,95mm, IPC Medium Density)
footprint SOT23-5 HD (SOT23, 5-Leads, Body 2,90x2,37mm, Pitch 0,95mm, IPC High Density)
pins: 1 OUT (power), 2 GND (power), 3 VIN+, 4 VIN-, 5 V+ (power)
text: STU

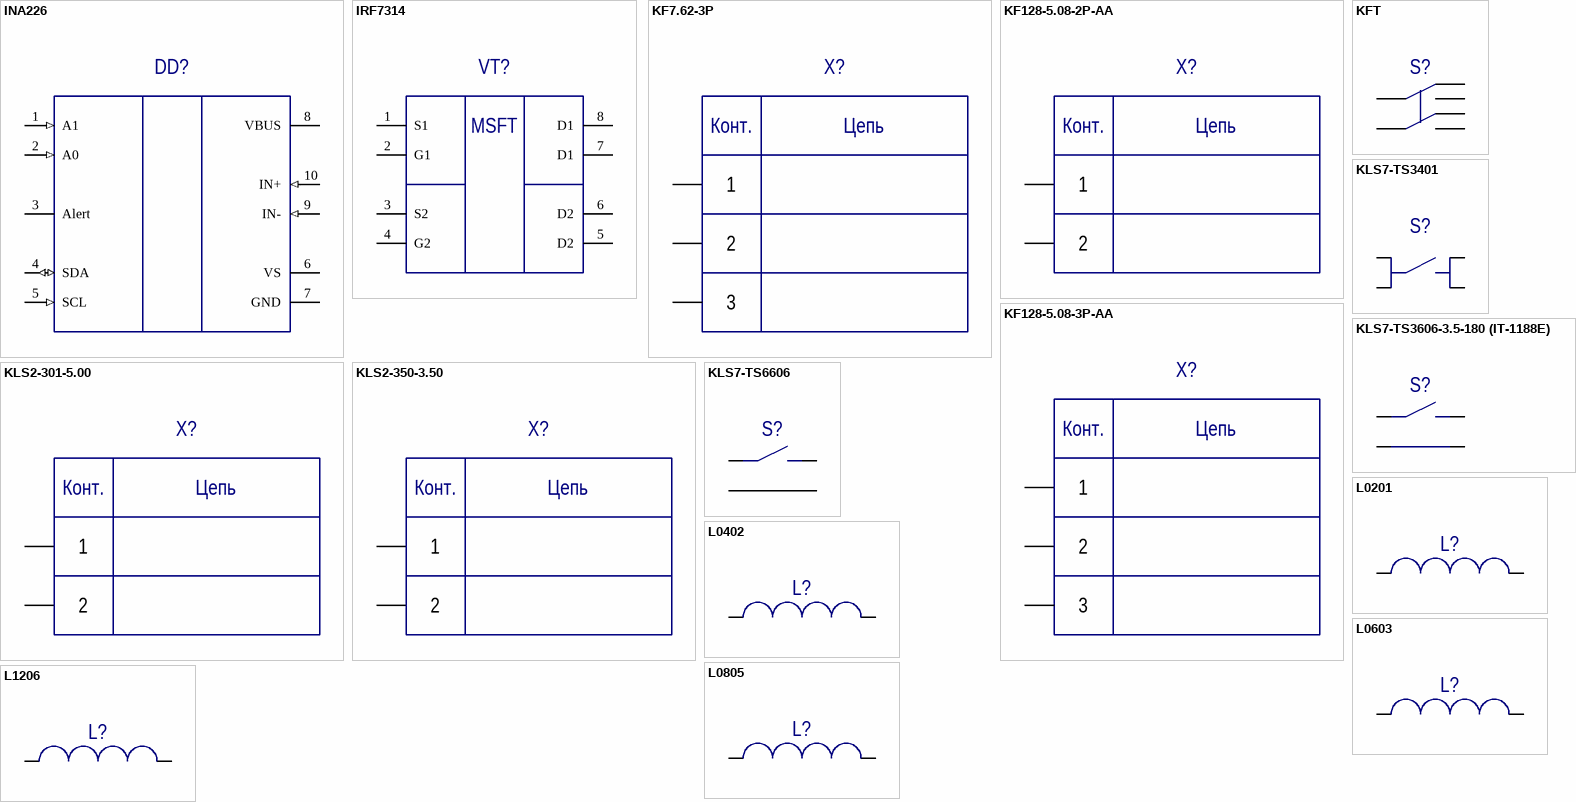
[diagram p6: symbols INA226 to L1206]

## INA226
designator DD?  (value not drawn)
footprint VSSOP10 LD (VSSOP, 10-Leads, Body 3,00x3,00mm, Pitch 0,50mm, IPC Low Density)
pins: 1 A1 (in), 2 A0 (in), 3 Alert (oc), 4 SDA (io), 5 SCL (in), 6 VS (power), 7 GND (power), 8 VBUS (power), 9 IN- (in), 10 IN+ (in)

## IRF7314
designator VT?  (value not drawn)
footprint SOIC8_150MIL HD JEDEC (SOIC, 8-Leads, Body 4,90x3,90mm, Pitch 1,27mm, IPC High Density)
footprint SOIC8_150MIL LD JEDEC (SOIC, 8-Leads, Body 4,90x3,90mm, Pitch 1,27mm, IPC Low Density)
footprint SOIC8_150MIL MD JEDEC (SOIC, 8-Leads, Body 4,90x3,90mm, Pitch 1,27mm, IPC Medium Density)
pins: 1 S1, 2 G1, 3 S2, 4 G2, 5 D2, 6 D2, 7 D1, 8 D1
text: MSFT

## KF7.62-3P
designator X?  (value not drawn)
footprint KF7.62-3P
pins: 1 (power), 2 (power), 3 (power)
text: Конт.; Цепь

## KF128-5.08-2P-AA
designator X?  (value not drawn)
footprint KF128-5.08-2P-AA
pins: 1 (power), 2 (power)
text: Конт.; Цепь

## KF128-5.08-3P-AA
designator X?  (value not drawn)
footprint KF128-5.08-3P-AA
pins: 1 (power), 2 (power), 3 (power)
text: Конт.; Цепь

## KFT
designator S?  (value not drawn)
footprint KFT-7.0 (Push Switch Series. 7x7)
pins: 1, 2, 3, 4, 5, 6

## KLS2-301-5.00
designator X?  (value not drawn)
footprint KLS2-301-5 (Terminal Block KLS2-301-5.00-02P-2S (DG301-5.0-02P-12))
pins: 1 (power), 2 (power)
text: Конт.; Цепь

## KLS2-350-3.50
designator X?  (value not drawn)
footprint KLS2-350-3.50 (Terminal Block KLS2-350-3.50-02P-2S (DG350-3.5-02P-12))
pins: 1 (power), 2 (power)
text: Конт.; Цепь

## KLS7-TS3401
designator S?  (value not drawn)
KLS7-TS3401 3x4mm Tact Switch (Straight)
footprint KLS7-TS3401
pins: 1, 2, 3, 4

## KLS7-TS3606-3.5-180 (IT-1188E)
designator S?  (value not drawn)
footprint KLS7-TS3606-3.5-180 (IT-1188E)
pins: 1, 2, 3, 4

## KLS7-TS6606
designator S?  (value not drawn)
Vertical Button
footprint KLS7-TS6606
pins: 1, 2, 3, 4

## L0201
designator L?  (value not drawn)
pins: 4, 5

## L0402
designator L?  (value not drawn)
pins: 4, 5

## L0603
designator L?  (value not drawn)
footprint L0603 HD (Chip Inductor, 2-Leads, Body 1.8x1mm, IPC High Density)
footprint L0603 LD (Chip Inductor, 2-Leads, Body 1.8x1mm, IPC Low Density)
footprint L0603 MD (Chip Inductor, 2-Leads, Body 1.8x1mm, IPC Medium Density)
pins: 1, 2

## L0805
designator L?  (value not drawn)
pins: 4, 5

## L1206
designator L?  (value not drawn)
pins: 4, 5

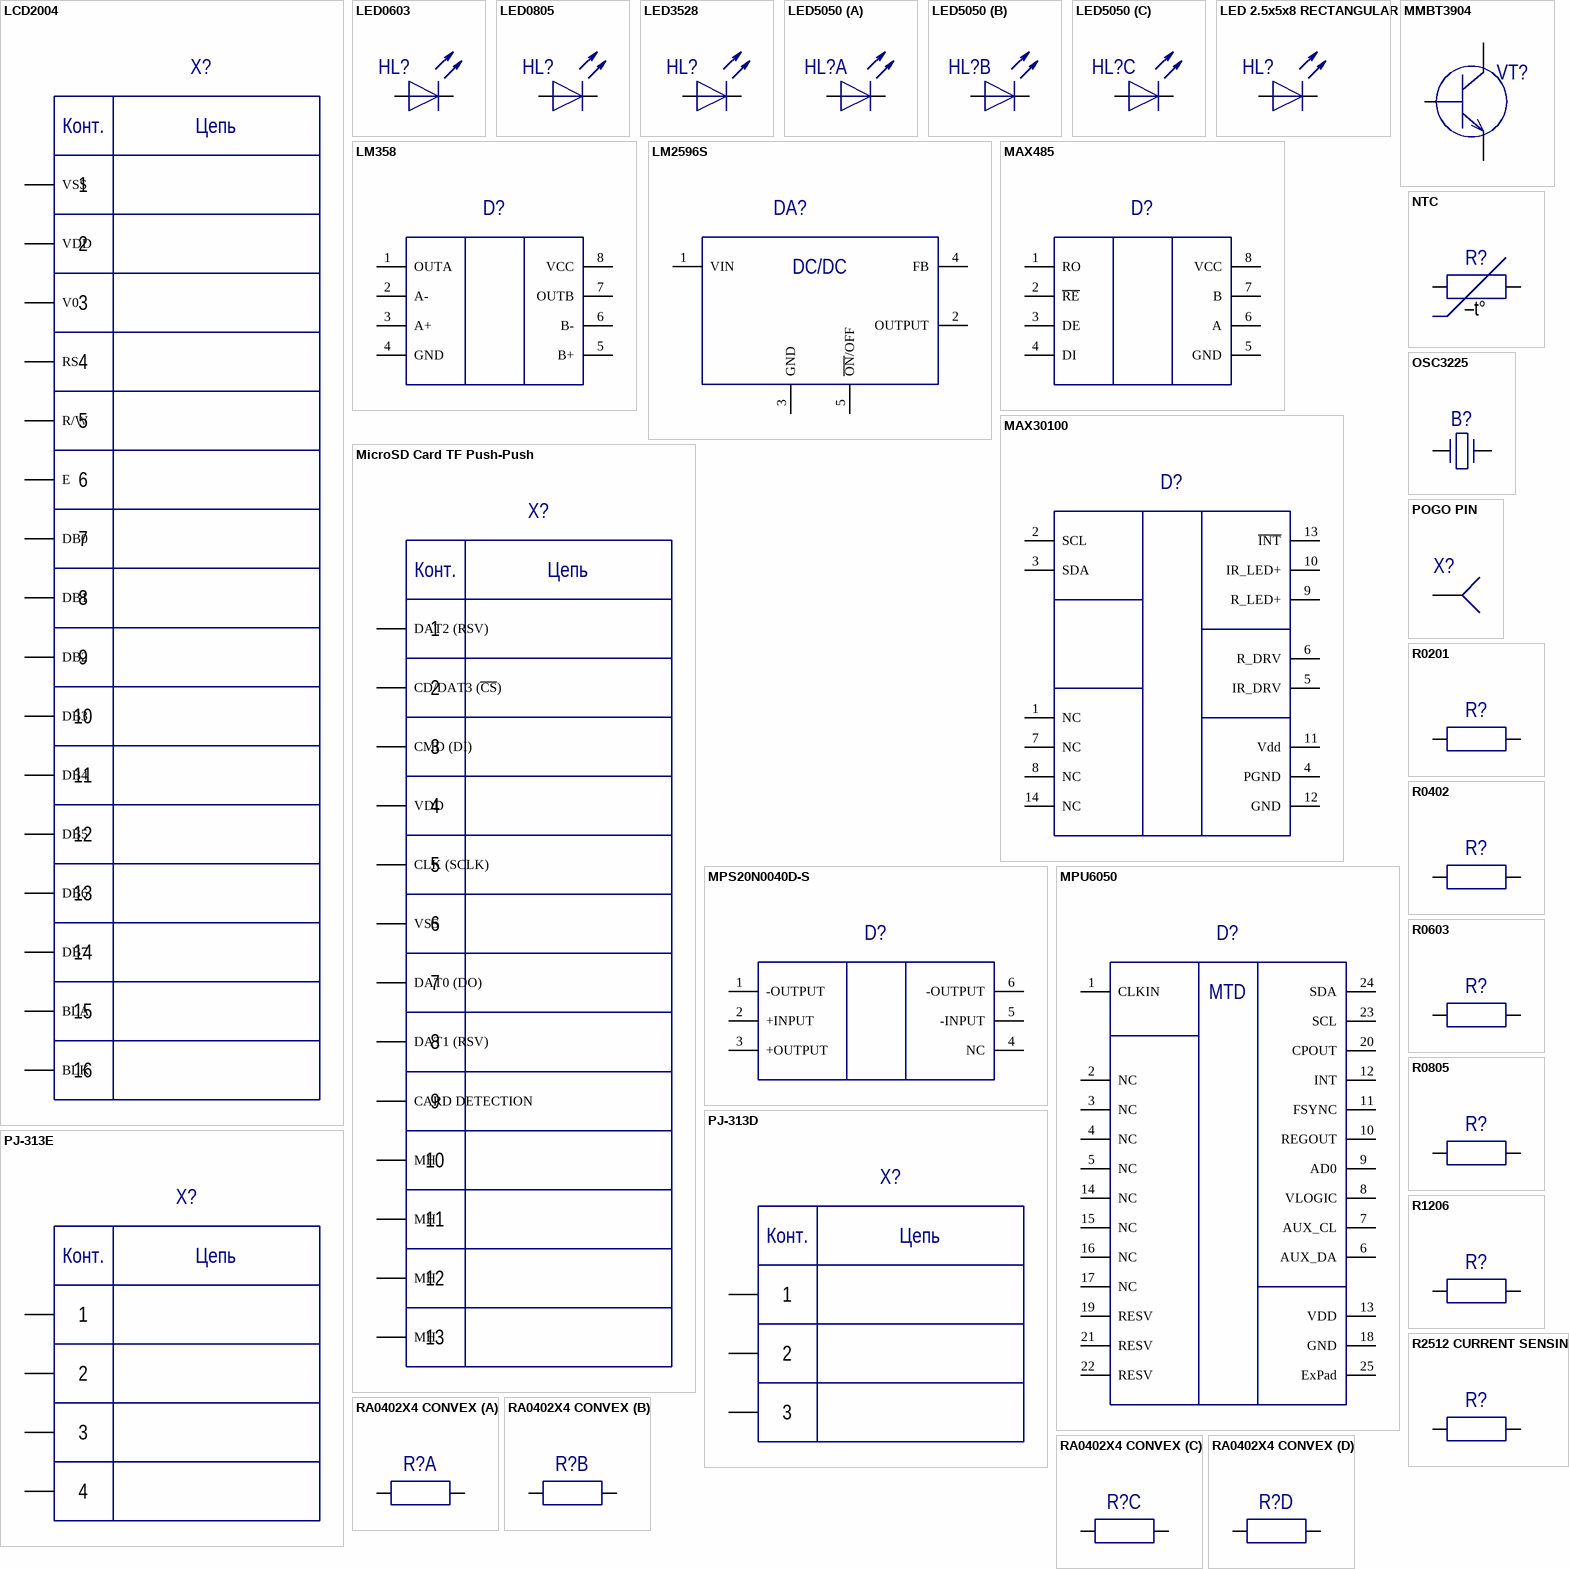
[diagram p7: symbols LCD2004 to RA0402X4 CONVEX]

## LCD2004
designator X?  (value not drawn)
footprint LCD2004
pins: 1 VSS (power), 2 VDD (power), 3 V0, 4 RS, 5 R/W, 6 E, 7 DB0, 8 DB1, 9 DB2, 10 DB3, 11 DB4, 12 DB5, 13 DB6, 14 DB7, 15 BLA (power) "Backlight Anode", 16 BLK (power) "Backlight Cathode"
text: Конт.; Цепь

## LED0603
designator HL?  (value not drawn)
footprint LED0603 NP
pins: 1, 2

## LED0805
designator HL?  (value not drawn)
footprint LED0805
pins: 1, 2

## LED3528
designator HL?  (value not drawn)
footprint LED3528
pins: 1, 2

## LED5050
designator HL?  (value not drawn)
footprint LED5050
part A pins: 1, 6
part B pins: 2, 5
part C pins: 3, 4

## LED 2.5x5x8 RECTANGULAR
designator HL?  (value not drawn)
footprint LED 2.5x5x8 RECTANGULAR
pins: 1, 2

## LM358
designator D?  (value not drawn)
footprint SOIC8_150MIL HD JEDEC (SOIC, 8-Leads, Body 4,90x3,90mm, Pitch 1,27mm, IPC High Density)
footprint SOIC8_150MIL LD JEDEC (SOIC, 8-Leads, Body 4,90x3,90mm, Pitch 1,27mm, IPC Low Density)
footprint SOIC8_150MIL MD JEDEC (SOIC, 8-Leads, Body 4,90x3,90mm, Pitch 1,27mm, IPC Medium Density)
pins: 1 OUTA, 2 A-, 3 A+, 4 GND, 5 B+, 6 B-, 7 OUTB, 8 VCC

## LM2596S
designator DA?  (value not drawn)
footprint D2PAK 5-LEAD (TO-263-5)
pins: 1 VIN, 2 OUTPUT, 3 GND, 4 FB, 5 ~{ON}/OFF, 6 HEATSINK
text: DC/DC

## MAX485
designator D?  (value not drawn)
footprint SOIC8_150MIL HD JEDEC (SOIC, 8-Leads, Body 4,90x3,90mm, Pitch 1,27mm, IPC High Density)
footprint SOIC8_150MIL LD JEDEC (SOIC, 8-Leads, Body 4,90x3,90mm, Pitch 1,27mm, IPC Low Density)
footprint SOIC8_150MIL MD JEDEC (SOIC, 8-Leads, Body 4,90x3,90mm, Pitch 1,27mm, IPC Medium Density)
pins: 1 RO, 2 ~{RE}, 3 DE, 4 DI, 5 GND, 6 A, 7 B, 8 VCC

## MAX30100
designator D?  (value not drawn)
pins: 1 NC, 2 SCL, 3 SDA, 4 PGND, 5 IR_DRV, 6 R_DRV, 7 NC, 8 NC, 9 R_LED+, 10 IR_LED+, 11 Vdd, 12 GND, 13 ~{INT}, 14 NC

## MicroSD Card TF Push-Push
designator X?  (value not drawn)
footprint WR-CRD Micro SD Card Connector
pins: 1 DAT2 (RSV), 2 CD/DAT3 (~{CS}), 3 CMD (DI), 4 VDD (power), 5 CLK (SCLK), 6 VSS (power), 7 DAT0 (DO), 8 DAT1 (RSV), 9 CARD DETECTION, 10 MH, 11 MH, 12 MH, 13 MH
text: Конт.; Цепь

## MMBT3904
designator VT?  (value not drawn)
footprint SOT23-3 (TO-236) MD (SOT23, 3-Leads, Body 2,90x2,37mm, Pitch 0,95mm, IPC Medium Density)
footprint SOT23-3 (TO-236) HD (SOT23, 3-Leads, Body 2,90x2,37mm, Pitch 0,95mm, IPC High Density)
footprint SOT23-3 (TO-236) LD (SOT23, 3-Leads, Body 2,90x2,37mm, Pitch 0,95mm, IPC Low Density)
pins: 1 B (power), 2 E (power), 3 C (power)

## MPS20N0040D-S
designator D?  (value not drawn)
Pressure Sensor MPS20N0040D-S
footprint MPS20N0040D-S
pins: 1 -OUTPUT, 2 +INPUT, 3 +OUTPUT, 4 NC, 5 -INPUT, 6 -OUTPUT

## MPU6050
designator D?  (value not drawn)
footprint QFN24 MD (QFN, 24-Leads, Body 4,00x4,00mm, Pitch 0,50mm, Thermal Pad 2,60x2,70mm, IPC Medium Density)
pins: 1 CLKIN, 2 NC, 3 NC, 4 NC, 5 NC, 6 AUX_DA, 7 AUX_CL, 8 VLOGIC, 9 AD0, 10 REGOUT, 11 FSYNC, 12 INT, 13 VDD, 14 NC, 15 NC, 16 NC, 17 NC, 18 GND, 19 RESV, 20 CPOUT, 21 RESV, 22 RESV, 23 SCL, 24 SDA, 25 ExPad
text: MTD

## NTC
designator R?  (value not drawn)
pins: 1, 2
text: –t°

## OSC3225
designator B?  (value not drawn)
SMD Quartz Crystal
footprint NX3225SA (4 Pad  Version 3.2x2.5mm)
pins: 1, 3

## PJ-313D
designator X?  (value not drawn)
footprint PJ-313D not verified (Audio Jack 3.5mm)
pins: 1, 2, 3
text: Конт.; Цепь

## PJ-313E
designator X?  (value not drawn)
footprint PJ-313E not verified (Audio Jack 3.5mm)
pins: 1, 2, 3, 4
text: Конт.; Цепь

## POGO PIN
designator X?  (value not drawn)
footprint P75-E2 (1.3 mm Pogo pin)
pins: 1

## R0201
designator R?  (value not drawn)
pins: 1, 2

## R0402
designator R?  (value not drawn)
footprint R0402 EASY (Chip Resistor 0402, 2-Leads, Body 1,0x0,5mm, IPC Medium Density)
pins: 1, 2

## R0603
designator R?  (value not drawn)
footprint R0603 HD (Chip Resistor, 2-Leads, Body 1.75x0.95mm, IPC High Density)
footprint R0603 LD (Chip Resistor, 2-Leads, Body 1.75x0.95mm, IPC Low Density)
footprint R0603 MD (Chip Resistor, 2-Leads, Body 1.75x0.95mm, IPC Medium Density)
footprint R0603 EASY (Chip Resistor 0603, 2-Leads, Body 1,6x0,8mm, IPC Medium Density)
pins: 1, 2

## R0805
designator R?  (value not drawn)
footprint R0805 EASY (Chip Resistor 0805, 2-Leads, Body 2,0x1,3mm, IPC Medium Density)
pins: 1, 2

## R1206
designator R?  (value not drawn)
footprint R1206 EASY (Chip Resistor 1206, 2-Leads, Body 3,2x1,6mm, IPC Medium Density)
pins: 1, 2

## R2512 CURRENT SENSING
designator R?  (value not drawn)
footprint R2512 (High Power Current Sensing Resistors RLP Series R>4m?)
footprint R2512_2 (High Power Current Sensing Resistors RLP Series RR?4m?)
pins: 1, 2

## RA0402X4 CONVEX
designator R?  (value not drawn)
footprint RA0402x4 CONVEX
part A pins: 1, 8
part B pins: 2, 7
part C pins: 3, 6
part D pins: 4, 5

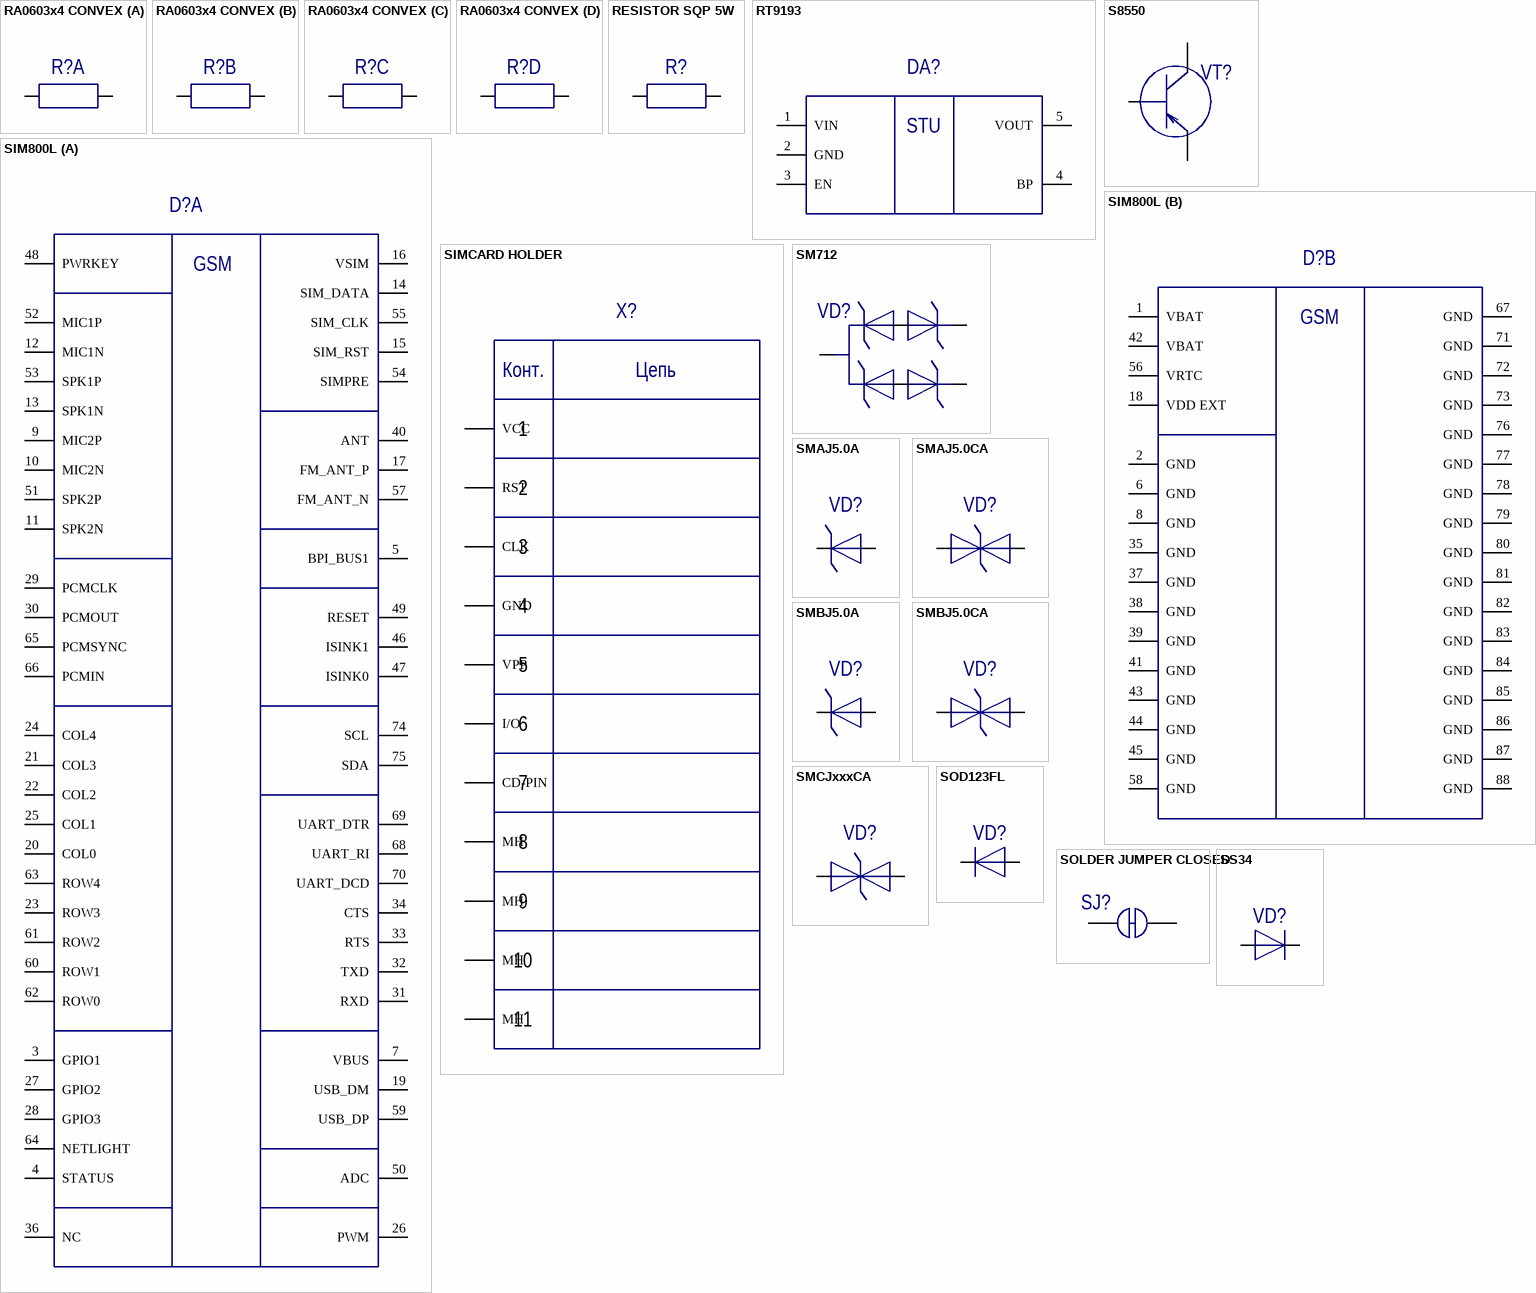
[diagram p8: symbols RA0603x4 CONVEX to SS34]

## RA0603x4 CONVEX
designator R?  (value not drawn)
footprint RA0603 CONVEX
part A pins: 1, 8
part B pins: 2, 7
part C pins: 3, 6
part D pins: 4, 5

## RESISTOR SQP 5W
designator R?  (value not drawn)
footprint SQP 5W
pins: 1, 2

## RT9193
designator DA?  (value not drawn)
300mA, Ultra-Low Noise, Ultra-Fast CMOS LDO Regulator
footprint SOT23-5 LD (SOT23, 5-Leads, Body 2,90x2,37mm, Pitch 0,95mm, IPC Low Density)
footprint SOT23-5 MD (SOT23, 5-Leads, Body 2,90x2,37mm, Pitch 0,95mm, IPC Medium Density)
footprint SOT23-5 HD (SOT23, 5-Leads, Body 2,90x2,37mm, Pitch 0,95mm, IPC High Density)
pins: 1 VIN (power), 2 GND (power), 3 EN, 4 BP, 5 VOUT (power)
text: STU

## S8550
designator VT?  (value not drawn)
footprint SOT23-3 (TO-236) MD (SOT23, 3-Leads, Body 2,90x2,37mm, Pitch 0,95mm, IPC Medium Density)
footprint SOT23-3 (TO-236) HD (SOT23, 3-Leads, Body 2,90x2,37mm, Pitch 0,95mm, IPC High Density)
footprint SOT23-3 (TO-236) LD (SOT23, 3-Leads, Body 2,90x2,37mm, Pitch 0,95mm, IPC Low Density)
pins: 1 B (power), 2 E (power), 3 C (power)

## SIM800L
designator D?  (value not drawn)
footprint SIM800L
part A pins: 3 GPIO1, 4 STATUS, 5 BPI_BUS1, 7 VBUS, 9 MIC2P, 10 MIC2N, 11 SPK2N, 12 MIC1N, 13 SPK1N, 14 SIM_DATA, 15 SIM_RST, 16 VSIM, 17 FM_ANT_P, 19 USB_DM, 20 COL0, 21 COL3, 22 COL2, 23 ROW3, 24 COL4, 25 COL1, 26 PWM, 27 GPIO2, 28 GPIO3, 29 PCMCLK, 30 PCMOUT, 31 RXD, 32 TXD, 33 RTS, 34 CTS, 36 NC, 40 ANT, 46 ISINK1, 47 ISINK0, 48 PWRKEY, 49 RESET, 50 ADC, 51 SPK2P, 52 MIC1P, 53 SPK1P, 54 SIMPRE, 55 SIM_CLK, 57 FM_ANT_N, 59 USB_DP, 60 ROW1, 61 ROW2, 62 ROW0, 63 ROW4, 64 NETLIGHT, 65 PCMSYNC, 66 PCMIN, 68 UART_RI, 69 UART_DTR, 70 UART_DCD, 74 SCL, 75 SDA
part B pins: 1 VBAT, 2 GND, 6 GND, 8 GND, 18 VDD EXT, 35 GND, 37 GND, 38 GND, 39 GND, 41 GND, 42 VBAT, 43 GND, 44 GND, 45 GND, 56 VRTC, 58 GND, 67 GND, 71 GND, 72 GND, 73 GND, 76 GND, 77 GND, 78 GND, 79 GND, 80 GND, 81 GND, 82 GND, 83 GND, 84 GND, 85 GND, 86 GND, 87 GND, 88 GND
part A text: GSM
part B text: GSM

## SIMCARD HOLDER
designator X?  (value not drawn)
footprint SIM_CARD HOLDER !!!
pins: 1 VCC, 2 RST, 3 CLK, 4 GND, 5 VPP, 6 I/O, 7 CD-PIN, 8 MH, 9 MH, 10 MH, 11 MH
text: Конт.; Цепь

## SM712
designator VD?  (value not drawn)
footprint SOT23-3 (TO-236) HD (SOT23, 3-Leads, Body 2,90x2,37mm, Pitch 0,95mm, IPC High Density)
footprint SOT23-3 (TO-236) MD (SOT23, 3-Leads, Body 2,90x2,37mm, Pitch 0,95mm, IPC Medium Density)
footprint SOT23-3 (TO-236) LD (SOT23, 3-Leads, Body 2,90x2,37mm, Pitch 0,95mm, IPC Low Density)
pins: 1, 2, 3

## SMAJ5.0A
designator VD?  (value not drawn)
footprint SMA (DO-214AC) TVS NP
pins: 1, 2

## SMAJ5.0CA
designator VD?  (value not drawn)
footprint SMA (DO-214AC) TVS Bidirectional NP
pins: 1, 2

## SMBJ5.0A
designator VD?  (value not drawn)
footprint SMB (DO-214AA) LD (Molded Diode, 2-Leads, Body 4,31x3,62mm, IPC Low Density)
pins: 1, 2

## SMBJ5.0CA
designator VD?  (value not drawn)
footprint SMB (DO-214AA) LD (Molded Diode, 2-Leads, Body 4,31x3,62mm, IPC Low Density)
pins: 1, 2

## SMCJxxxCA
designator VD?  (value not drawn)
footprint SMC (DO-214AB) LD TVS BIDIRECTIONAL (Molded Diode, 2-Leads, Body 6,86x5,91mm, IPC Low Density)
pins: 1, 2

## SOD123FL
designator VD?  (value not drawn)
footprint SOD123FL LD (SODFL, 2-Leads, Body 1,80x3,65mm, IPC Low Density)
pins: 1, 2

## SOLDER JUMPER CLOSED
designator SJ?  (value not drawn)
footprint SOLDER JUMPER CLOSED
pins: 1 GND5, 2 GND6

## SS34
designator VD?  (value not drawn)
footprint SMA (DO-214AC) DIODE NP
footprint SMA (DO-214AC) LD (Molded Diode, 2-Leads, Body 4,38x2,73mm, IPC Low Density)
pins: 1, 2

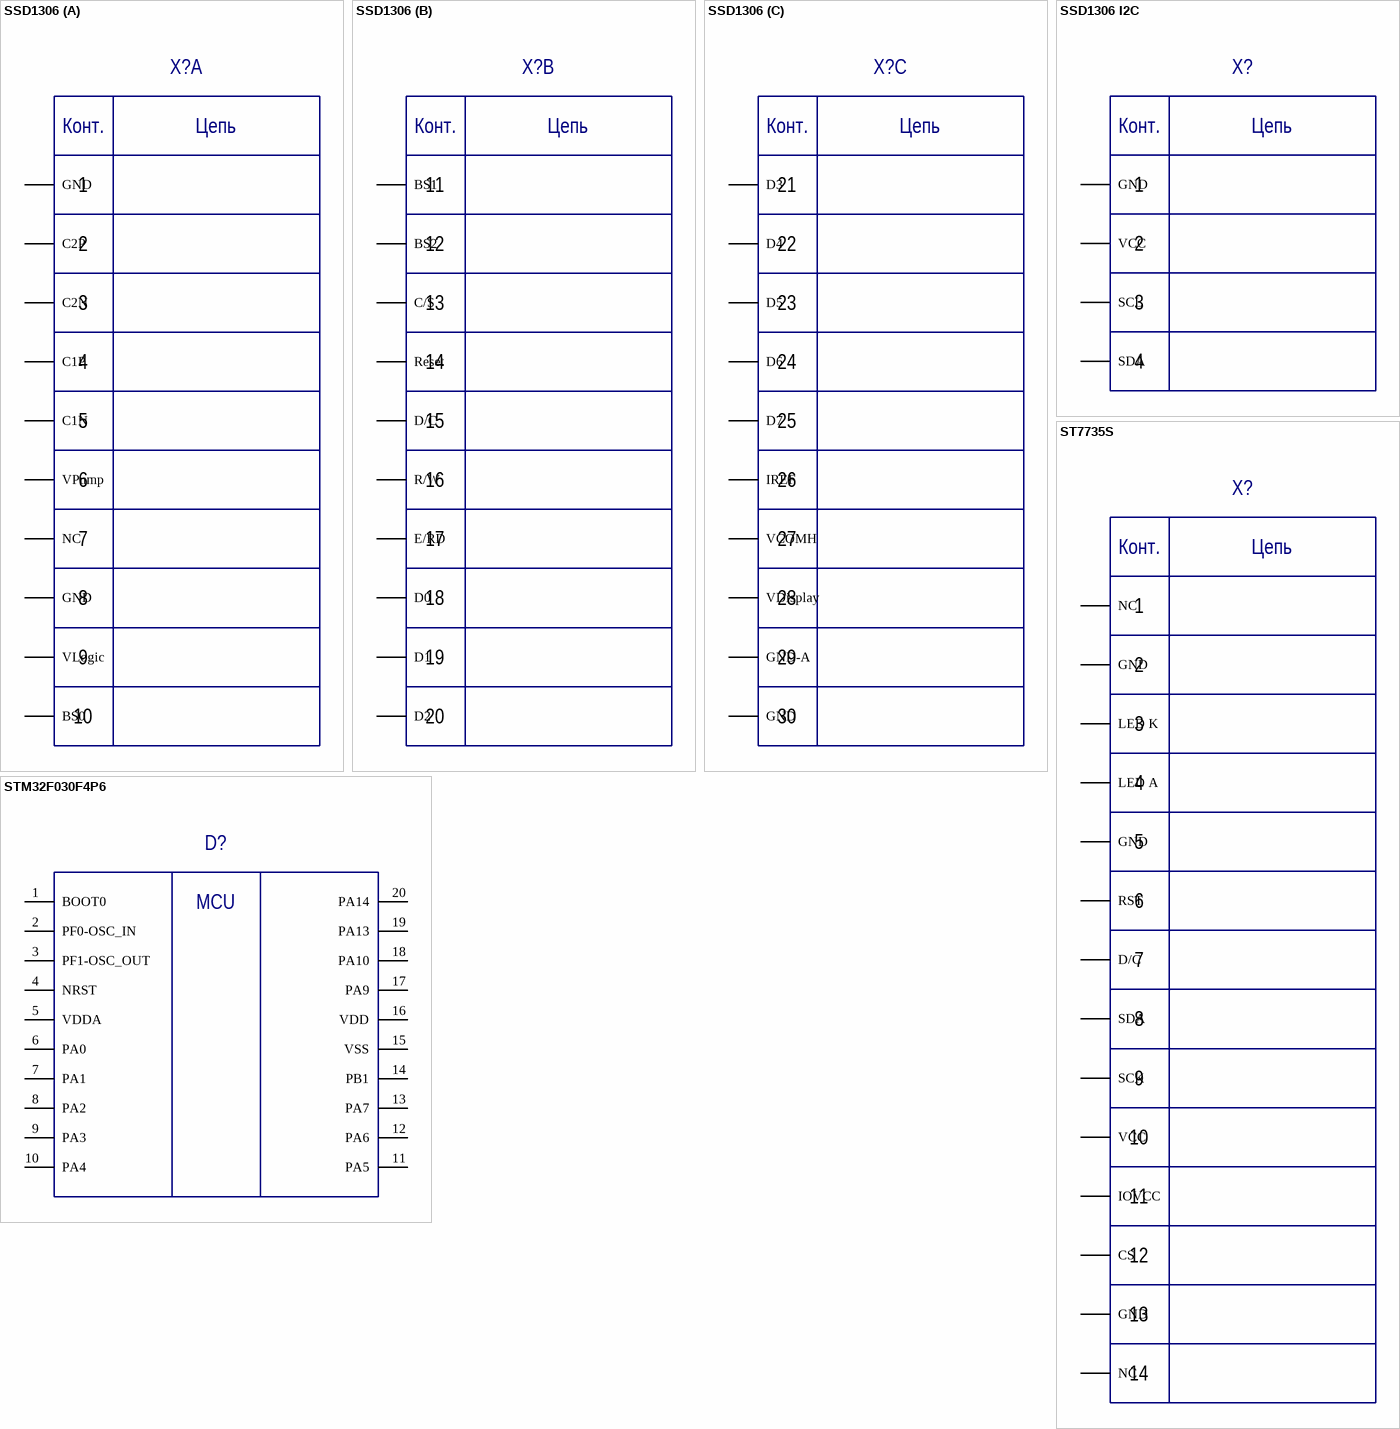
[diagram p9: symbols SSD1306 to STM32F030F4P6]

## SSD1306
designator X?  (value not drawn)
footprint SSD1306 _BOTTOM (30-pin 128x64 SSD1306 Display)
footprint SSD1306 _TOP_2 (30-pin 128x64 SSD1306 Display)
part A pins: 1 GND, 2 C2P, 3 C2N, 4 C1P (power), 5 C1N, 6 VPump (power), 7 NC, 8 GND, 9 VLogic, 10 BS0
part B pins: 11 BS1, 12 BS2, 13 C/S, 14 Reset, 15 D/C, 16 R/W, 17 E/RD, 18 D0, 19 D1, 20 D2
part C pins: 21 D3, 22 D4, 23 D5, 24 D6, 25 D7, 26 IREF, 27 VCOMH, 28 VDisplay, 29 GND-A, 30 GND
part A text: Конт.; Цепь
part B text: Конт.; Цепь
part C text: Конт.; Цепь

## SSD1306 I2C
designator X?  (value not drawn)
footprint SSD1306 I2C
footprint SSD1306 I2C NEW
pins: 1 GND, 2 VCC, 3 SCL, 4 SDA
text: Конт.; Цепь

## ST7735S
designator X?  (value not drawn)
footprint ST7735_14PIN_1
footprint ST7735_14PIN_2
pins: 1 NC, 2 GND, 3 LED K, 4 LED A, 5 GND, 6 RST, 7 D/C, 8 SDA, 9 SCK, 10 VCC, 11 IOVCC, 12 CS, 13 GND, 14 NC
text: Конт.; Цепь

## STM32F030F4P6
designator D?  (value not drawn)
footprint TSSOP20 LD (TSOP, 20-Leads, Body 6,50x4,40mm, Pitch 0,65mm, IPC Low Density)
pins: 1 BOOT0, 2 PF0-OSC_IN, 3 PF1-OSC_OUT, 4 NRST, 5 VDDA, 6 PA0, 7 PA1, 8 PA2, 9 PA3, 10 PA4, 11 PA5, 12 PA6, 13 PA7, 14 PB1, 15 VSS, 16 VDD, 17 PA9, 18 PA10, 19 PA13, 20 PA14
text: MCU

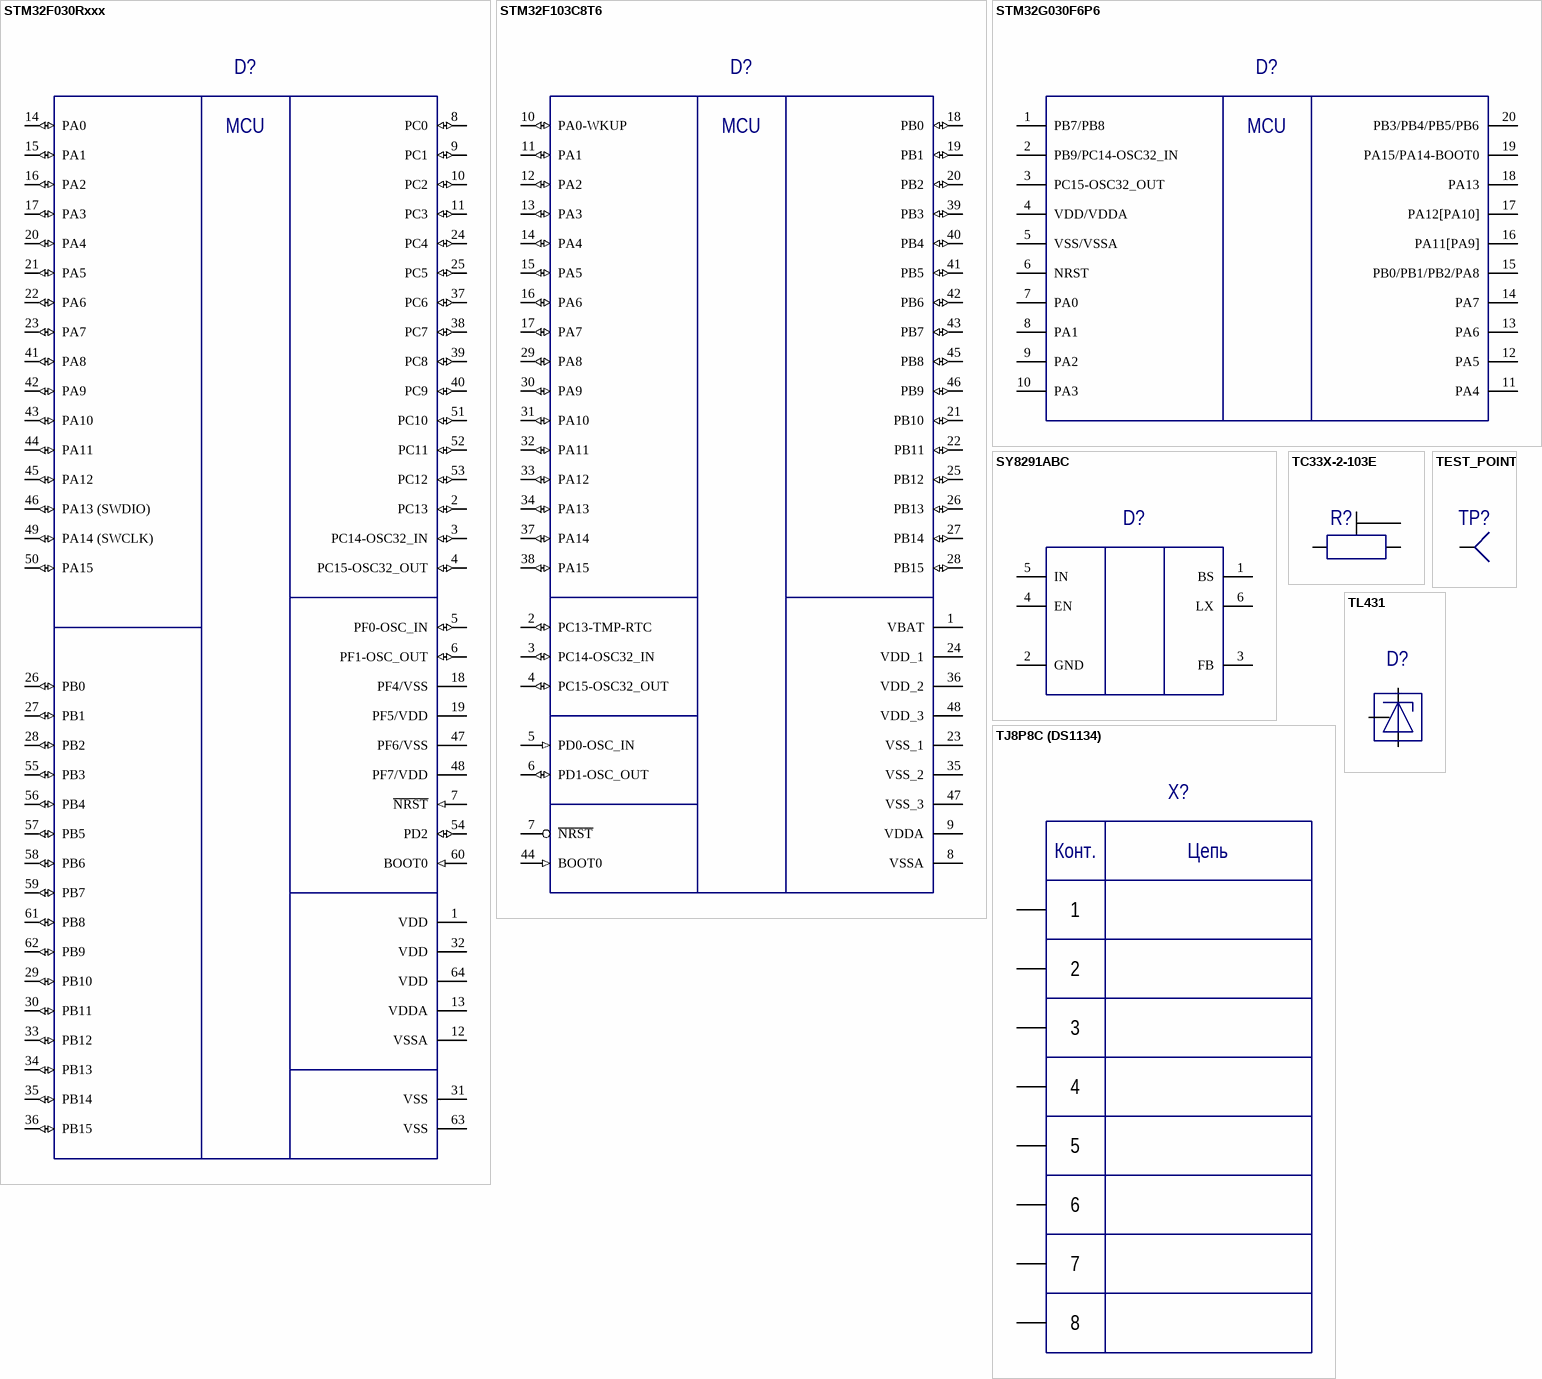
[diagram p10: symbols STM32F030Rxxx to TL431]

## STM32F030Rxxx
designator D?  (value not drawn)
IC MCU 32BIT 64KB FLASH 48LQFP; Manufacturer: STMicroelectronics; Manufacturer Part Number: STM32F103C8T6; Address Bus Width: 32b; Core Architecture: ARM; Frequency: 72MHz; Interface: I2C,SPI,USB,CAN,USART; Max Power Dissipation: 363mW; Max Supply Voltage: 3.6V; Min Supply Voltage: 2V; Number of ADC Channels: 10; Number of Bits: 32; Number of I/Os: 37; Number of I2C Channels: 2; Number of Programmable I/O: 48; Number of PWM Channels: 1; Number of Timers/Counters: 3; Oscillator Type: Internal; Peripherals: POR,PWM,WDT,DMA,Temp Sensor,I2C; RAM Size: 20KB; Watchdog Timer: Yes; Case/Package: LQFP; Category: Microcontrollers; Data Bus Width: 32b; Density: 64KB; Height: 1.4mm; Lead Free: Lead Free; Length: 7mm; Max Frequency: 72MHz; Max Operating Temperature: 85°C; Memory Size: 64KB; Memory Type: FLASH; Min Operating Temperature: -40°C; Number of Pins: 48; Number of SPI Channels: 2; Package Quantity: 1500; Packaging: Tray; Radiation Hardening: No; REACH SVHC: No SVHC; RoHS Compliant: Yes; Series: STM32F103C8; Termination: SMD/SMT; Weight: 0.006349oz; Width: 7mm
footprint LQFP64 LD (TSQFP, 64-Leads, Body 10,00x10,00mm, Pitch 0,50mm, IPC Low Density)
pins: 1 VDD (power), 2 PC13 (io), 3 PC14-OSC32_IN (io), 4 PC15-OSC32_OUT (io), 5 PF0-OSC_IN (io), 6 PF1-OSC_OUT (io), 7 ~{NRST} (in), 8 PC0 (io), 9 PC1 (io), 10 PC2 (io), 11 PC3 (io), 12 VSSA (power), 13 VDDA (power), 14 PA0 (io), 15 PA1 (io), 16 PA2 (io), 17 PA3 (io), 18 PF4/VSS (power), 19 PF5/VDD (power), 20 PA4 (io), 21 PA5 (io), 22 PA6 (io), 23 PA7 (io), 24 PC4 (io), 25 PC5 (io), 26 PB0 (io), 27 PB1 (io), 28 PB2 (io), 29 PB10 (io), 30 PB11 (io), 31 VSS (power), 32 VDD (power), 33 PB12 (io), 34 PB13 (io), 35 PB14 (io), 36 PB15 (io), 37 PC6 (io), 38 PC7 (io), 39 PC8 (io), 40 PC9 (io), 41 PA8 (io), 42 PA9 (io), 43 PA10 (io), 44 PA11 (io), 45 PA12 (io), 46 PA13 (SWDIO) (io), 47 PF6/VSS (power), 48 PF7/VDD (power), 49 PA14 (SWCLK) (io), 50 PA15 (io), 51 PC10 (io), 52 PC11 (io), 53 PC12 (io), 54 PD2 (io), 55 PB3 (io), 56 PB4 (io), 57 PB5 (io), 58 PB6 (io), 59 PB7 (io), 60 BOOT0 (in), 61 PB8 (io), 62 PB9 (io), 63 VSS (power), 64 VDD (power)
text: MCU

## STM32F103C8T6
designator D?  (value not drawn)
IC MCU 32BIT 64KB FLASH 48LQFP; Manufacturer: STMicroelectronics; Manufacturer Part Number: STM32F103C8T6; Address Bus Width: 32b; Core Architecture: ARM; Frequency: 72MHz; Interface: I2C,SPI,USB,CAN,USART; Max Power Dissipation: 363mW; Max Supply Voltage: 3.6V; Min Supply Voltage: 2V; Number of ADC Channels: 10; Number of Bits: 32; Number of I/Os: 37; Number of I2C Channels: 2; Number of Programmable I/O: 48; Number of PWM Channels: 1; Number of Timers/Counters: 3; Oscillator Type: Internal; Peripherals: POR,PWM,WDT,DMA,Temp Sensor,I2C; RAM Size: 20KB; Watchdog Timer: Yes; Case/Package: LQFP; Category: Microcontrollers; Data Bus Width: 32b; Density: 64KB; Height: 1.4mm; Lead Free: Lead Free; Length: 7mm; Max Frequency: 72MHz; Max Operating Temperature: 85°C; Memory Size: 64KB; Memory Type: FLASH; Min Operating Temperature: -40°C; Number of Pins: 48; Number of SPI Channels: 2; Package Quantity: 1500; Packaging: Tray; Radiation Hardening: No; REACH SVHC: No SVHC; RoHS Compliant: Yes; Series: STM32F103C8; Termination: SMD/SMT; Weight: 0.006349oz; Width: 7mm
footprint LQFP48 LD (LQFP, 48-Leads, Body 7,00x7,00mm, Pitch 0,50mm, IPC Low Density)
footprint LQFP48 MD (LQFP, 48-Leads, Body 7,00x7,00mm, Pitch 0,50mm, IPC Medium Density)
footprint LQFP48 HD (LQFP, 48-Leads, Body 7,00x7,00mm, Pitch 0,50mm, IPC High Density)
pins: 1 VBAT (power), 2 PC13-TMP-RTC (io), 3 PC14-OSC32_IN (io), 4 PC15-OSC32_OUT (io), 5 PD0-OSC_IN (in), 6 PD1-OSC_OUT (io), 7 ~{NRST}, 8 VSSA (power), 9 VDDA (power), 10 PA0-WKUP (io), 11 PA1 (io), 12 PA2 (io), 13 PA3 (io), 14 PA4 (io), 15 PA5 (io), 16 PA6 (io), 17 PA7 (io), 18 PB0 (io), 19 PB1 (io), 20 PB2 (io), 21 PB10 (io), 22 PB11 (io), 23 VSS_1 (power), 24 VDD_1 (power), 25 PB12 (io), 26 PB13 (io), 27 PB14 (io), 28 PB15 (io), 29 PA8 (io), 30 PA9 (io), 31 PA10 (io), 32 PA11 (io), 33 PA12 (io), 34 PA13 (io), 35 VSS_2 (power), 36 VDD_2 (power), 37 PA14 (io), 38 PA15 (io), 39 PB3 (io), 40 PB4 (io), 41 PB5 (io), 42 PB6 (io), 43 PB7 (io), 44 BOOT0 (in), 45 PB8 (io), 46 PB9 (io), 47 VSS_3 (power), 48 VDD_3 (power)
text: MCU

## STM32G030F6P6
designator D?  (value not drawn)
footprint TSSOP20 LD (TSOP, 20-Leads, Body 6,50x4,40mm, Pitch 0,65mm, IPC Low Density)
pins: 1 PB7/PB8, 2 PB9/PC14-OSC32_IN, 3 PC15-OSC32_OUT, 4 VDD/VDDA, 5 VSS/VSSA, 6 NRST, 7 PA0, 8 PA1, 9 PA2, 10 PA3, 11 PA4, 12 PA5, 13 PA6, 14 PA7, 15 PB0/PB1/PB2/PA8, 16 PA11[PA9], 17 PA12[PA10], 18 PA13, 19 PA15/PA14-BOOT0, 20 PB3/PB4/PB5/PB6
text: MCU

## SY8291ABC
designator D?  (value not drawn)
footprint SOT23-6 MD (SOT23, 6-Leads, Body 2,90x2,37mm, Pitch 0,95mm, IPC Medium Density)
pins: 1 BS, 2 GND, 3 FB, 4 EN, 5 IN, 6 LX

## TC33X-2-103E
designator R?  (value not drawn)
Manufacturer: Bourns; Manufacturer Part Number: TC33X-2-103E; Max Power Dissipation: 100mW; Resistance: 10kR; Resistance Tolerance: 25%; Number of Turns: 1; Temperature Coefficient: 250ppm/°C; Voltage Rating (DC): 50V; Power Rating: 100mW; Resistor Type: Cermet; Category: Variable Resistors and Potentiometers; Color: Silver; Contact Plating: Copper,Tin,Silver; Depth: 3.8mm; Height: 0.047inch; Lead Free: Lead Free; Length: 3mm; Max Operating Temperature: 100°C; Military Standard: Not; Min Operating Temperature: -40°C; Mount: Surface Mount; Package Quantity: 2500; Packaging: Tape and Reel; Radiation Hardening: No; REACH SVHC: No SVHC; RoHS Compliant: Yes; Series: TC33; Taper: Linear; Termination: Foot Print; Tolerance: 25%; Weight: 29.4mg; Width: 0.118inch
footprint TC33 (TC33 - 3 mm SMD Trimpot® Trimming Potentiometer)
pins: 1, 2, 3

## TEST_POINT
designator TP?  (value not drawn)
footprint TEST_POINT
pins: 1

## TJ8P8C (DS1134)
designator X?  (value not drawn)
footprint TJ8P8C (DS1134) (RJ45)
pins: 1, 2, 3, 4, 5, 6, 7, 8
text: Конт.; Цепь

## TL431
designator D?  (value not drawn)
footprint SOT23-3 (TO-236) LD (SOT23, 3-Leads, Body 2,90x2,37mm, Pitch 0,95mm, IPC Low Density)
footprint SOT23-3 (TO-236) HD (SOT23, 3-Leads, Body 2,90x2,37mm, Pitch 0,95mm, IPC High Density)
footprint SOT23-3 (TO-236) MD (SOT23, 3-Leads, Body 2,90x2,37mm, Pitch 0,95mm, IPC Medium Density)
pins: 1 "Cathode", 2 "Ref", 3 "Anode"

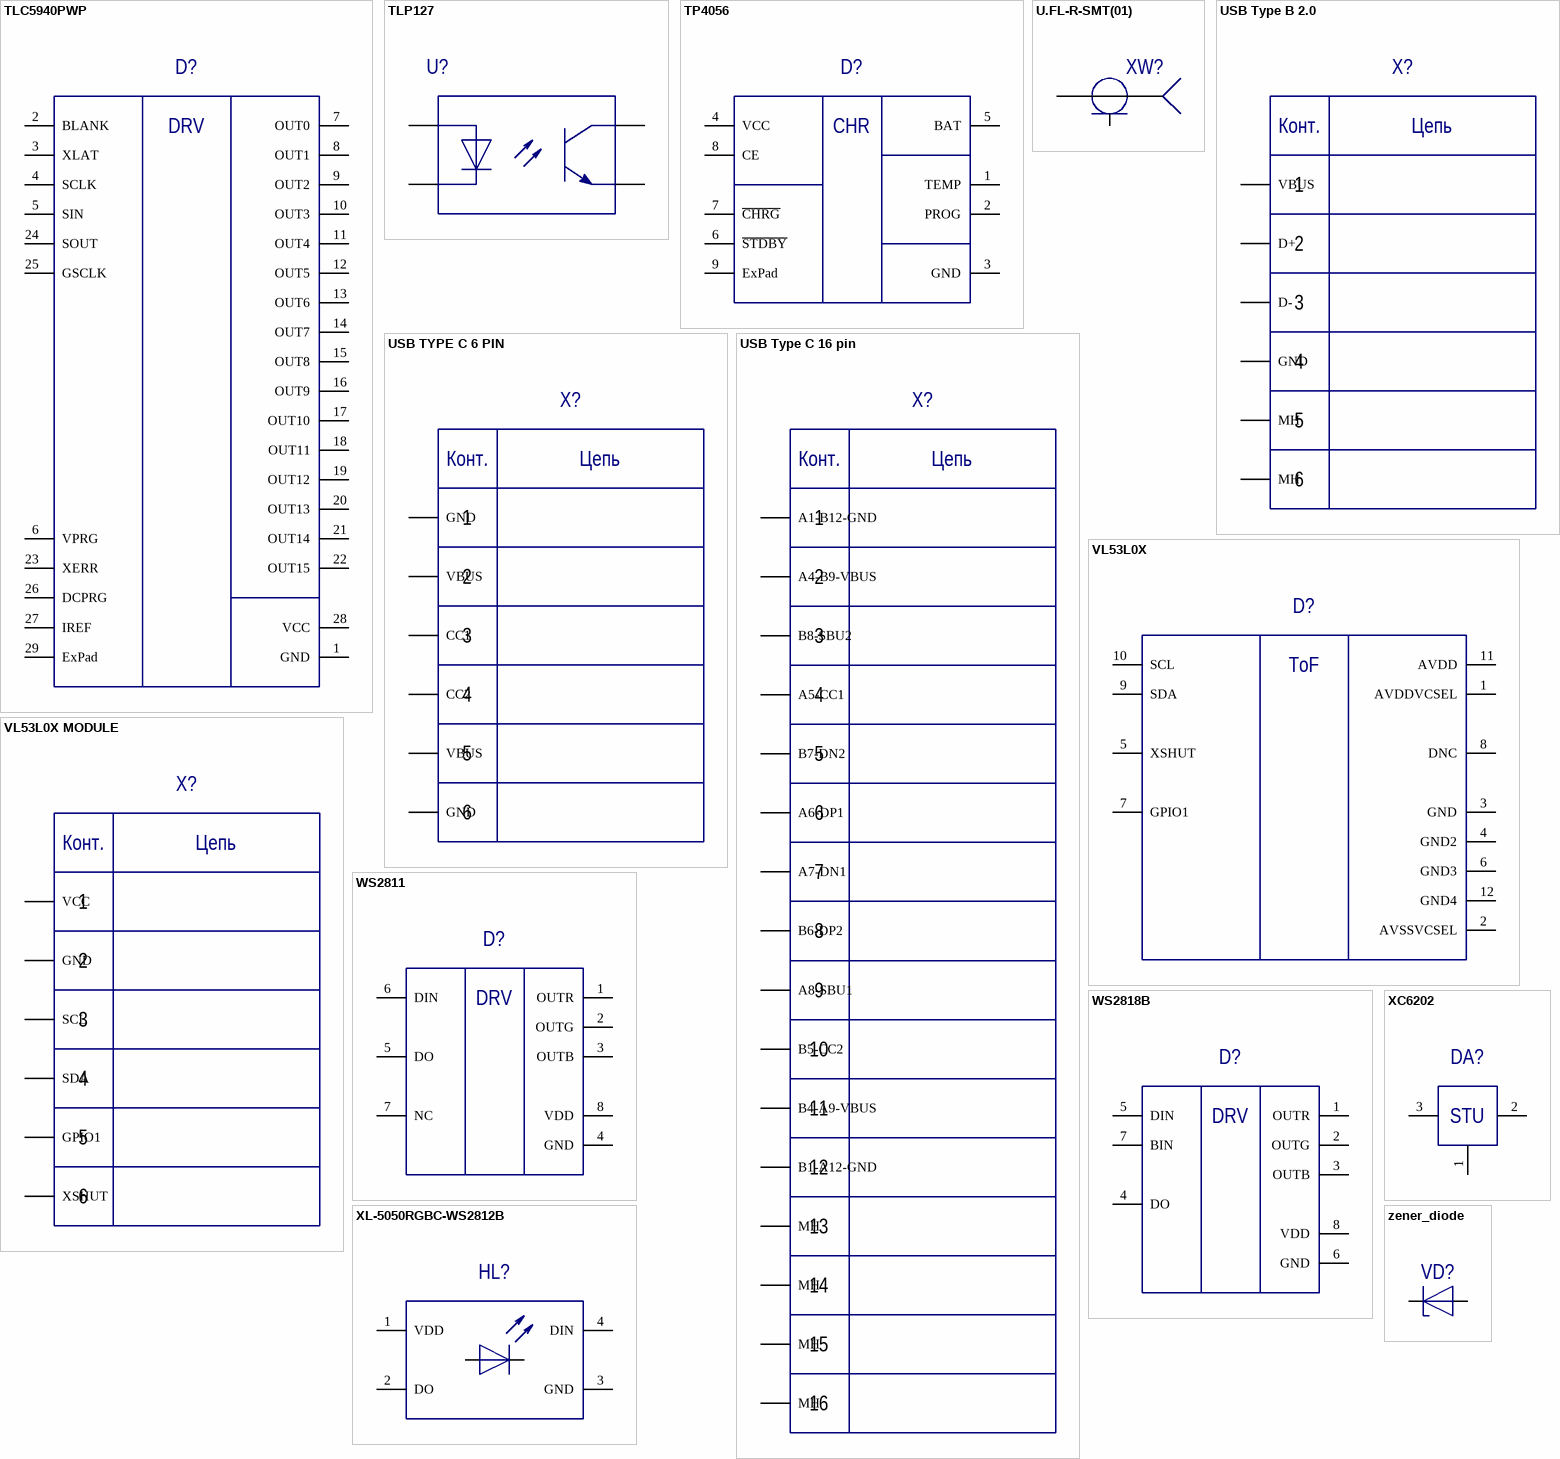
[diagram p11: symbols TLC5940PWP to zener_diode]

## TLC5940PWP
designator D?  (value not drawn)
footprint TSSOP28_EP NP
pins: 1 GND, 2 BLANK, 3 XLAT, 4 SCLK, 5 SIN, 6 VPRG, 7 OUT0, 8 OUT1, 9 OUT2, 10 OUT3, 11 OUT4, 12 OUT5, 13 OUT6, 14 OUT7, 15 OUT8, 16 OUT9, 17 OUT10, 18 OUT11, 19 OUT12, 20 OUT13, 21 OUT14, 22 OUT15, 23 XERR, 24 SOUT, 25 GSCLK, 26 DCPRG, 27 IREF, 28 VCC, 29 ExPad
text: DRV

## TLP127
designator U?  (value not drawn)
footprint SOP4
pins: 1 (power), 3 (power), 4 (power), 6 (power)

## TP4056
designator D?  (value not drawn)
footprint SOIC8_150MIL_EP HD JEDEC (SOIC, 8-Leads, Body 4,90x3,90mm, Pitch 1,27mm, IPC High Density)
footprint SOIC8_150MIL_EP LD JEDEC (SOIC, 8-Leads, Body 4,90x3,90mm, Pitch 1,27mm, IPC Low Density)
footprint SOIC8_150MIL_EP MD JEDEC (SOIC, 8-Leads, Body 4,90x3,90mm, Pitch 1,27mm, IPC Medium Density)
pins: 1 TEMP, 2 PROG, 3 GND, 4 VCC, 5 BAT, 6 ~{STDBY}, 7 ~{CHRG}, 8 CE, 9 ExPad
text: CHR

## U.FL-R-SMT(01)
designator XW?  (value not drawn)
footprint U.FL-R-SMT(01)
pins: 1, 2

## USB Type B 2.0
designator X?  (value not drawn)
footprint USB Type B 2.0 (USB Connector, 4-Leads, Body 16.5x12.04mm)
pins: 1 VBUS (power), 2 D+ (power), 3 D-, 4 GND, 5 MH, 6 MH
text: Конт.; Цепь

## USB TYPE C 6 PIN
designator X?  (value not drawn)
footprint USB TYPE C 6 pin
pins: 1 GND, 2 VBUS, 3 CC1, 4 CC2, 5 VBUS, 6 GND
text: Конт.; Цепь

## USB Type C 16 pin
designator X?  (value not drawn)
footprint USB_TYPEC_YBD_USB31
pins: 1 A1-B12-GND, 2 A4-B9-VBUS, 3 B8-SBU2, 4 A5-CC1, 5 B7-DN2, 6 A6-DP1, 7 A7-DN1, 8 B6-DP2, 9 A8-SBU1, 10 B5-CC2, 11 B4-A9-VBUS, 12 B1-A12-GND, 13 MH, 14 MH, 15 MH, 16 MH
text: Конт.; Цепь

## VL53L0X
designator D?  (value not drawn)
footprint VL53L0X
pins: 1 AVDDVCSEL, 2 AVSSVCSEL, 3 GND, 4 GND2, 5 XSHUT, 6 GND3, 7 GPIO1, 8 DNC, 9 SDA, 10 SCL, 11 AVDD, 12 GND4
text: ToF

## VL53L0X MODULE
designator X?  (value not drawn)
footprint VL53L0X MODULE (Connector; Header; 6 Position)
pins: 1 VCC, 2 GND, 3 SCL, 4 SDA, 5 GPIO1, 6 XSHUT
text: Конт.; Цепь

## WS2811
designator D?  (value not drawn)
footprint SOIC8_150MIL HD JEDEC (SOIC, 8-Leads, Body 4,90x3,90mm, Pitch 1,27mm, IPC High Density)
footprint SOIC8_150MIL LD JEDEC (SOIC, 8-Leads, Body 4,90x3,90mm, Pitch 1,27mm, IPC Low Density)
footprint SOIC8_150MIL MD JEDEC (SOIC, 8-Leads, Body 4,90x3,90mm, Pitch 1,27mm, IPC Medium Density)
pins: 1 OUTR, 2 OUTG, 3 OUTB, 4 GND, 5 DO, 6 DIN, 7 NC, 8 VDD
text: DRV

## WS2818B
designator D?  (value not drawn)
footprint SOIC8_150MIL HD JEDEC (SOIC, 8-Leads, Body 4,90x3,90mm, Pitch 1,27mm, IPC High Density)
footprint SOIC8_150MIL LD JEDEC (SOIC, 8-Leads, Body 4,90x3,90mm, Pitch 1,27mm, IPC Low Density)
footprint SOIC8_150MIL MD JEDEC (SOIC, 8-Leads, Body 4,90x3,90mm, Pitch 1,27mm, IPC Medium Density)
pins: 1 OUTR, 2 OUTG, 3 OUTB, 4 DO, 5 DIN, 6 GND, 7 BIN, 8 VDD
text: DRV

## XC6202
designator DA?  (value not drawn)
footprint SOT23-3 (TO-236) MD (SOT23, 3-Leads, Body 2,90x2,37mm, Pitch 0,95mm, IPC Medium Density)
footprint SOT23-3 (TO-236) LD (SOT23, 3-Leads, Body 2,90x2,37mm, Pitch 0,95mm, IPC Low Density)
footprint SOT23-3 (TO-236) HD (SOT23, 3-Leads, Body 2,90x2,37mm, Pitch 0,95mm, IPC High Density)
pins: 1 (power), 2 (power), 3 (power)
text: STU

## XL-5050RGBC-WS2812B
designator HL?  (value not drawn)
footprint XL-5050RGBC-WS2812B
pins: 1 VDD, 2 DO, 3 GND, 4 DIN

## zener_diode
designator VD?  (value not drawn)
footprint SOD323F MD (SODFL, 2-Leads, Body 1,25x2,50mm, IPC Medium Density)
footprint SOD323F LD (SODFL, 2-Leads, Body 1,25x2,50mm, IPC Low Density)
pins: 1, 2